# Altium integrated library Xilinx CoolRunner II.IntLib: 88 symbols (part 1 of 5)
Pins are listed as number, name and electrical type; pins without a type are passive.

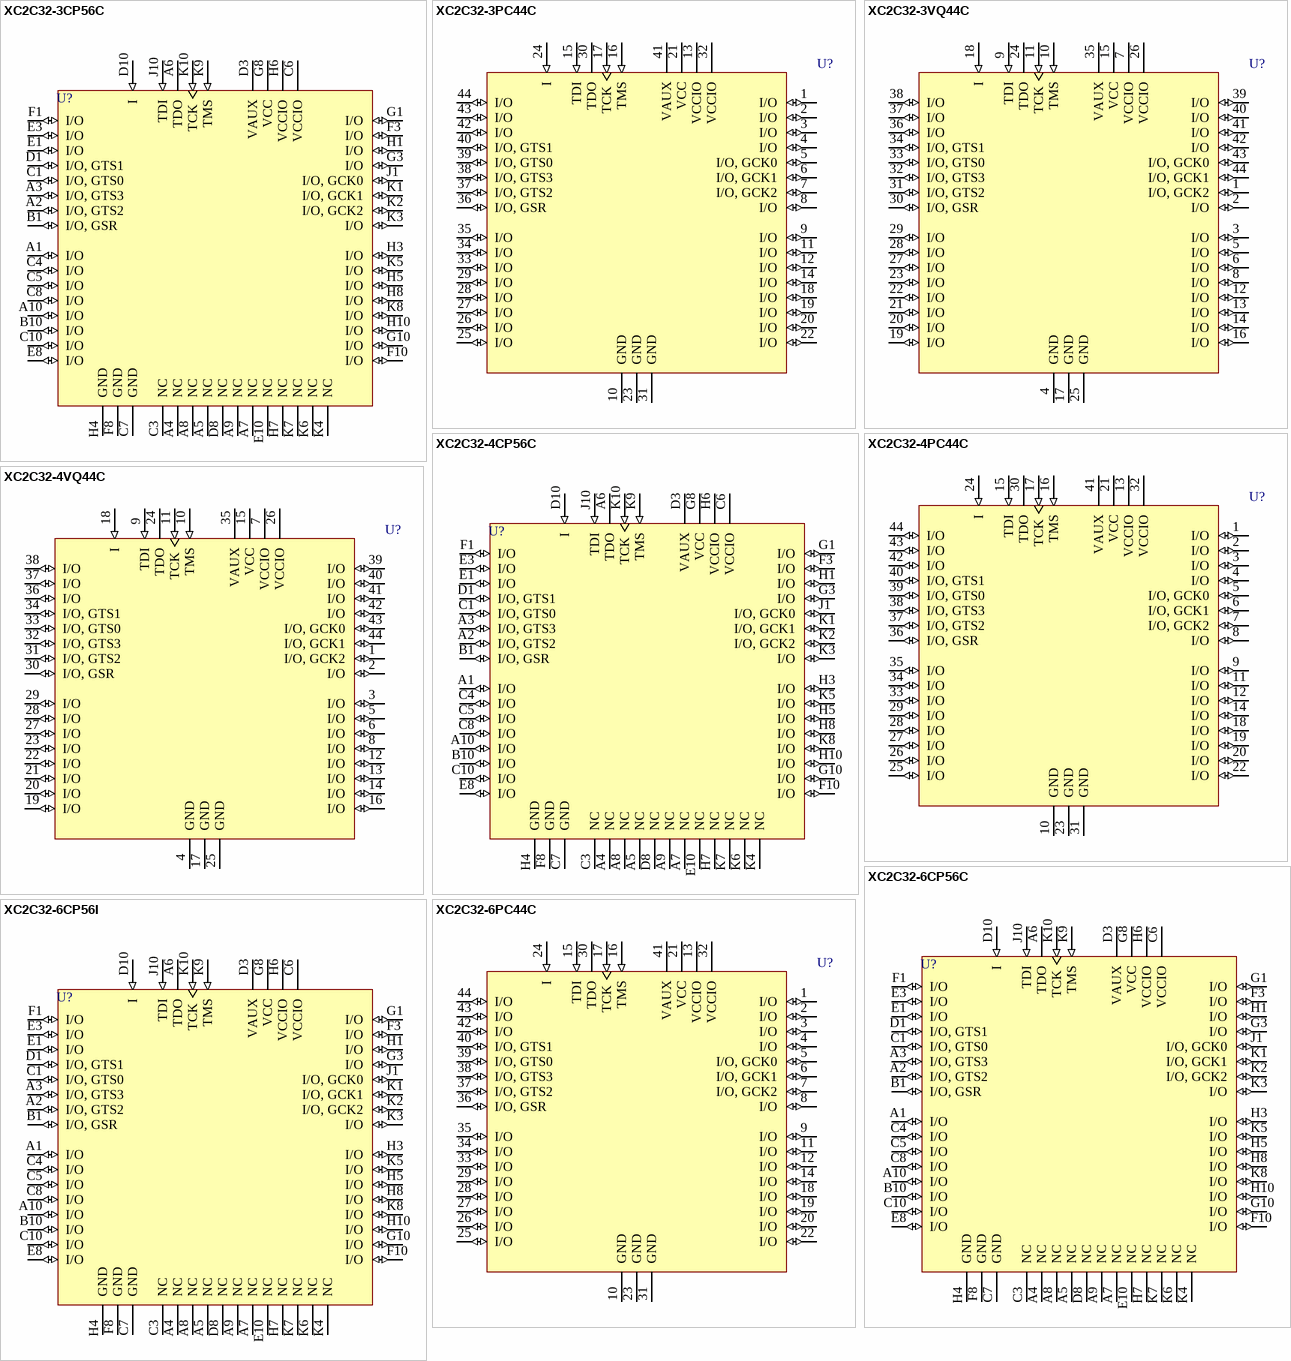
[diagram p0: symbols XC2C32-3CP56C to XC2C32-6PC44C]

## XC2C32-3CP56C
designator U?
CoolRunner-II, 1.8V, 32 Macrocell CPLD, 56-Ball CSP, Commercial Grade; PackageDocument: ver1.0, Jun-2000; Published: 23-Sep-2002; DatasheetDocument: ver2.2, Jan-2004; PackageReference: CP56; Publisher: Altium Limited
footprint CP56 (56-Ball Chip Scale Ball Grid Array 0.5mm Pitch (CP56))
3D model XC2C32-CP56 (56-Ball Chip Scale Ball Grid Array 0.5mm Pitch (CP56))
signal-integrity model XC2C32_CP56 (CoolRunner-II)
pins: A1 I/O (io), A2 I/O, GTS2 (io), A3 I/O, GTS3 (io), A4 NC, A5 NC, A6 TDO (hiz), A7 NC, A8 NC, A9 NC, A10 I/O (io), B1 I/O, GSR (io), B10 I/O (io), C1 I/O, GTS0 (io), C3 NC, C4 I/O (io), C5 I/O (io), C6 VCCIO (power), C7 GND (power), C8 I/O (io), C10 I/O (io), D1 I/O, GTS1 (io), D3 VAUX (power), D8 NC, D10 I (in), E1 I/O (io), E3 I/O (io), E8 I/O (io), E10 NC, F1 I/O (io), F3 I/O (io), F8 GND (power), F10 I/O (io), G1 I/O (io), G3 I/O (io), G8 VCC (power), G10 I/O (io), H1 I/O (io), H3 I/O (io), H4 GND (power), H5 I/O (io), H6 VCCIO (power), H7 NC, H8 I/O (io), H10 I/O (io), J1 I/O, GCK0 (io), J10 TDI (in), K1 I/O, GCK1 (io), K2 I/O, GCK2 (io), K3 I/O (io), K4 NC, K5 I/O (io), K6 NC, K7 NC, K8 I/O (io), K9 TMS (in), K10 TCK (in)

## XC2C32-3PC44C
designator U?
CoolRunner-II, 1.8V, 32 Macrocell CPLD, 44-Pin PLCC, Commercial Grade; PackageDocument: ver1.0, Jun-2000; Published: 23-Sep-2002; DatasheetDocument: ver2.2, Jan-2004; PackageReference: PC44; Publisher: Altium Limited; Code_JEDEC: MS-047; Code_IPC: PLCC-44
footprint PC44 (44-Pin Plastic Leaded Chip Carrier (PC44))
3D model XC2C32-PC44 (44-Pin Plastic Leaded Chip Carrier (PC44))
signal-integrity model XC2C32_PC44 (CoolRunner-II)
pins: 1 I/O (io), 2 I/O (io), 3 I/O (io), 4 I/O (io), 5 I/O, GCK0 (io), 6 I/O, GCK1 (io), 7 I/O, GCK2 (io), 8 I/O (io), 9 I/O (io), 10 GND (power), 11 I/O (io), 12 I/O (io), 13 VCCIO (power), 14 I/O (io), 15 TDI (in), 16 TMS (in), 17 TCK (in), 18 I/O (io), 19 I/O (io), 20 I/O (io), 21 VCC (power), 22 I/O (io), 23 GND (power), 24 I (in), 25 I/O (io), 26 I/O (io), 27 I/O (io), 28 I/O (io), 29 I/O (io), 30 TDO (hiz), 31 GND (power), 32 VCCIO (power), 33 I/O (io), 34 I/O (io), 35 I/O (io), 36 I/O, GSR (io), 37 I/O, GTS2 (io), 38 I/O, GTS3 (io), 39 I/O, GTS0 (io), 40 I/O, GTS1 (io), 41 VAUX (power), 42 I/O (io), 43 I/O (io), 44 I/O (io)

## XC2C32-3VQ44C
designator U?
CoolRunner-II, 1.8V, 32 Macrocell CPLD, 44-Pin VQFP, Commercial Grade; PackageDocument: ver1.1, Oct-2002; Published: 23-Sep-2002; DatasheetDocument: ver2.2, Jan-2004; PackageReference: VQ44; Publisher: Altium Limited; Code_JEDEC: MS-026-ACB
footprint VQ44 (44-Pin Very Thin Quad Flat Pack (VQ44))
3D model XC2C32-VQ44 (44-Pin Very Thin Quad Flat Pack (VQ44))
signal-integrity model XC2C32_VQ44 (CoolRunner-II)
pins: 1 I/O, GCK2 (io), 2 I/O (io), 3 I/O (io), 4 GND (power), 5 I/O (io), 6 I/O (io), 7 VCCIO (power), 8 I/O (io), 9 TDI (in), 10 TMS (in), 11 TCK (in), 12 I/O (io), 13 I/O (io), 14 I/O (io), 15 VCC (power), 16 I/O (io), 17 GND (power), 18 I (in), 19 I/O (io), 20 I/O (io), 21 I/O (io), 22 I/O (io), 23 I/O (io), 24 TDO (hiz), 25 GND (power), 26 VCCIO (power), 27 I/O (io), 28 I/O (io), 29 I/O (io), 30 I/O, GSR (io), 31 I/O, GTS2 (io), 32 I/O, GTS3 (io), 33 I/O, GTS0 (io), 34 I/O, GTS1 (io), 35 VAUX (power), 36 I/O (io), 37 I/O (io), 38 I/O (io), 39 I/O (io), 40 I/O (io), 41 I/O (io), 42 I/O (io), 43 I/O, GCK0 (io), 44 I/O, GCK1 (io)

## XC2C32-4CP56C
designator U?
CoolRunner-II, 1.8V, 32 Macrocell CPLD, 56-Ball CSP, Commercial Grade; PackageDocument: ver1.0, Jun-2000; Published: 23-Sep-2002; DatasheetDocument: ver2.2, Jan-2004; PackageReference: CP56; Publisher: Altium Limited
footprint CP56 (56-Ball Chip Scale Ball Grid Array 0.5mm Pitch (CP56))
3D model XC2C32-CP56 (56-Ball Chip Scale Ball Grid Array 0.5mm Pitch (CP56))
signal-integrity model XC2C32_CP56 (CoolRunner-II)
pins: A1 I/O (io), A2 I/O, GTS2 (io), A3 I/O, GTS3 (io), A4 NC, A5 NC, A6 TDO (hiz), A7 NC, A8 NC, A9 NC, A10 I/O (io), B1 I/O, GSR (io), B10 I/O (io), C1 I/O, GTS0 (io), C3 NC, C4 I/O (io), C5 I/O (io), C6 VCCIO (power), C7 GND (power), C8 I/O (io), C10 I/O (io), D1 I/O, GTS1 (io), D3 VAUX (power), D8 NC, D10 I (in), E1 I/O (io), E3 I/O (io), E8 I/O (io), E10 NC, F1 I/O (io), F3 I/O (io), F8 GND (power), F10 I/O (io), G1 I/O (io), G3 I/O (io), G8 VCC (power), G10 I/O (io), H1 I/O (io), H3 I/O (io), H4 GND (power), H5 I/O (io), H6 VCCIO (power), H7 NC, H8 I/O (io), H10 I/O (io), J1 I/O, GCK0 (io), J10 TDI (in), K1 I/O, GCK1 (io), K2 I/O, GCK2 (io), K3 I/O (io), K4 NC, K5 I/O (io), K6 NC, K7 NC, K8 I/O (io), K9 TMS (in), K10 TCK (in)

## XC2C32-4PC44C
designator U?
CoolRunner-II, 1.8V, 32 Macrocell CPLD, 44-Pin PLCC, Commercial Grade; PackageDocument: ver1.0, Jun-2000; Published: 23-Sep-2002; DatasheetDocument: ver2.2, Jan-2004; PackageReference: PC44; Publisher: Altium Limited; Code_JEDEC: MS-047; Code_IPC: PLCC-44
footprint PC44 (44-Pin Plastic Leaded Chip Carrier (PC44))
3D model XC2C32-PC44 (44-Pin Plastic Leaded Chip Carrier (PC44))
signal-integrity model XC2C32_PC44 (CoolRunner-II)
pins: 1 I/O (io), 2 I/O (io), 3 I/O (io), 4 I/O (io), 5 I/O, GCK0 (io), 6 I/O, GCK1 (io), 7 I/O, GCK2 (io), 8 I/O (io), 9 I/O (io), 10 GND (power), 11 I/O (io), 12 I/O (io), 13 VCCIO (power), 14 I/O (io), 15 TDI (in), 16 TMS (in), 17 TCK (in), 18 I/O (io), 19 I/O (io), 20 I/O (io), 21 VCC (power), 22 I/O (io), 23 GND (power), 24 I (in), 25 I/O (io), 26 I/O (io), 27 I/O (io), 28 I/O (io), 29 I/O (io), 30 TDO (hiz), 31 GND (power), 32 VCCIO (power), 33 I/O (io), 34 I/O (io), 35 I/O (io), 36 I/O, GSR (io), 37 I/O, GTS2 (io), 38 I/O, GTS3 (io), 39 I/O, GTS0 (io), 40 I/O, GTS1 (io), 41 VAUX (power), 42 I/O (io), 43 I/O (io), 44 I/O (io)

## XC2C32-4VQ44C
designator U?
CoolRunner-II, 1.8V, 32 Macrocell CPLD, 44-Pin VQFP, Commercial Grade; PackageDocument: ver1.1, Oct-2002; Published: 23-Sep-2002; DatasheetDocument: ver2.2, Jan-2004; PackageReference: VQ44; Publisher: Altium Limited; Code_JEDEC: MS-026-ACB
footprint VQ44 (44-Pin Very Thin Quad Flat Pack (VQ44))
3D model XC2C32-VQ44 (44-Pin Very Thin Quad Flat Pack (VQ44))
signal-integrity model XC2C32_VQ44 (CoolRunner-II)
pins: 1 I/O, GCK2 (io), 2 I/O (io), 3 I/O (io), 4 GND (power), 5 I/O (io), 6 I/O (io), 7 VCCIO (power), 8 I/O (io), 9 TDI (in), 10 TMS (in), 11 TCK (in), 12 I/O (io), 13 I/O (io), 14 I/O (io), 15 VCC (power), 16 I/O (io), 17 GND (power), 18 I (in), 19 I/O (io), 20 I/O (io), 21 I/O (io), 22 I/O (io), 23 I/O (io), 24 TDO (hiz), 25 GND (power), 26 VCCIO (power), 27 I/O (io), 28 I/O (io), 29 I/O (io), 30 I/O, GSR (io), 31 I/O, GTS2 (io), 32 I/O, GTS3 (io), 33 I/O, GTS0 (io), 34 I/O, GTS1 (io), 35 VAUX (power), 36 I/O (io), 37 I/O (io), 38 I/O (io), 39 I/O (io), 40 I/O (io), 41 I/O (io), 42 I/O (io), 43 I/O, GCK0 (io), 44 I/O, GCK1 (io)

## XC2C32-6CP56C
designator U?
CoolRunner-II, 1.8V, 32 Macrocell CPLD, 56-Ball CSP, Commercial Grade; PackageDocument: ver1.0, Jun-2000; Published: 23-Sep-2002; DatasheetDocument: ver2.2, Jan-2004; PackageReference: CP56; Publisher: Altium Limited
footprint CP56 (56-Ball Chip Scale Ball Grid Array 0.5mm Pitch (CP56))
3D model XC2C32-CP56 (56-Ball Chip Scale Ball Grid Array 0.5mm Pitch (CP56))
signal-integrity model XC2C32_CP56 (CoolRunner-II)
pins: A1 I/O (io), A2 I/O, GTS2 (io), A3 I/O, GTS3 (io), A4 NC, A5 NC, A6 TDO (hiz), A7 NC, A8 NC, A9 NC, A10 I/O (io), B1 I/O, GSR (io), B10 I/O (io), C1 I/O, GTS0 (io), C3 NC, C4 I/O (io), C5 I/O (io), C6 VCCIO (power), C7 GND (power), C8 I/O (io), C10 I/O (io), D1 I/O, GTS1 (io), D3 VAUX (power), D8 NC, D10 I (in), E1 I/O (io), E3 I/O (io), E8 I/O (io), E10 NC, F1 I/O (io), F3 I/O (io), F8 GND (power), F10 I/O (io), G1 I/O (io), G3 I/O (io), G8 VCC (power), G10 I/O (io), H1 I/O (io), H3 I/O (io), H4 GND (power), H5 I/O (io), H6 VCCIO (power), H7 NC, H8 I/O (io), H10 I/O (io), J1 I/O, GCK0 (io), J10 TDI (in), K1 I/O, GCK1 (io), K2 I/O, GCK2 (io), K3 I/O (io), K4 NC, K5 I/O (io), K6 NC, K7 NC, K8 I/O (io), K9 TMS (in), K10 TCK (in)

## XC2C32-6CP56I
designator U?
CoolRunner-II, 1.8V, 32 Macrocell CPLD, 56-Ball CSP, Industrial Grade; PackageDocument: ver1.0, Jun-2000; Published: 23-Sep-2002; DatasheetDocument: ver2.2, Jan-2004; PackageReference: CP56; Publisher: Altium Limited
footprint CP56 (56-Ball Chip Scale Ball Grid Array 0.5mm Pitch (CP56))
3D model XC2C32-CP56 (56-Ball Chip Scale Ball Grid Array 0.5mm Pitch (CP56))
signal-integrity model XC2C32_CP56 (CoolRunner-II)
pins: A1 I/O (io), A2 I/O, GTS2 (io), A3 I/O, GTS3 (io), A4 NC, A5 NC, A6 TDO (hiz), A7 NC, A8 NC, A9 NC, A10 I/O (io), B1 I/O, GSR (io), B10 I/O (io), C1 I/O, GTS0 (io), C3 NC, C4 I/O (io), C5 I/O (io), C6 VCCIO (power), C7 GND (power), C8 I/O (io), C10 I/O (io), D1 I/O, GTS1 (io), D3 VAUX (power), D8 NC, D10 I (in), E1 I/O (io), E3 I/O (io), E8 I/O (io), E10 NC, F1 I/O (io), F3 I/O (io), F8 GND (power), F10 I/O (io), G1 I/O (io), G3 I/O (io), G8 VCC (power), G10 I/O (io), H1 I/O (io), H3 I/O (io), H4 GND (power), H5 I/O (io), H6 VCCIO (power), H7 NC, H8 I/O (io), H10 I/O (io), J1 I/O, GCK0 (io), J10 TDI (in), K1 I/O, GCK1 (io), K2 I/O, GCK2 (io), K3 I/O (io), K4 NC, K5 I/O (io), K6 NC, K7 NC, K8 I/O (io), K9 TMS (in), K10 TCK (in)

## XC2C32-6PC44C
designator U?
CoolRunner-II, 1.8V, 32 Macrocell CPLD, 44-Pin PLCC, Commercial Grade; PackageDocument: ver1.0, Jun-2000; Published: 23-Sep-2002; DatasheetDocument: ver2.2, Jan-2004; PackageReference: PC44; Publisher: Altium Limited; Code_JEDEC: MS-047; Code_IPC: PLCC-44
footprint PC44 (44-Pin Plastic Leaded Chip Carrier (PC44))
3D model XC2C32-PC44 (44-Pin Plastic Leaded Chip Carrier (PC44))
signal-integrity model XC2C32_PC44 (CoolRunner-II)
pins: 1 I/O (io), 2 I/O (io), 3 I/O (io), 4 I/O (io), 5 I/O, GCK0 (io), 6 I/O, GCK1 (io), 7 I/O, GCK2 (io), 8 I/O (io), 9 I/O (io), 10 GND (power), 11 I/O (io), 12 I/O (io), 13 VCCIO (power), 14 I/O (io), 15 TDI (in), 16 TMS (in), 17 TCK (in), 18 I/O (io), 19 I/O (io), 20 I/O (io), 21 VCC (power), 22 I/O (io), 23 GND (power), 24 I (in), 25 I/O (io), 26 I/O (io), 27 I/O (io), 28 I/O (io), 29 I/O (io), 30 TDO (hiz), 31 GND (power), 32 VCCIO (power), 33 I/O (io), 34 I/O (io), 35 I/O (io), 36 I/O, GSR (io), 37 I/O, GTS2 (io), 38 I/O, GTS3 (io), 39 I/O, GTS0 (io), 40 I/O, GTS1 (io), 41 VAUX (power), 42 I/O (io), 43 I/O (io), 44 I/O (io)

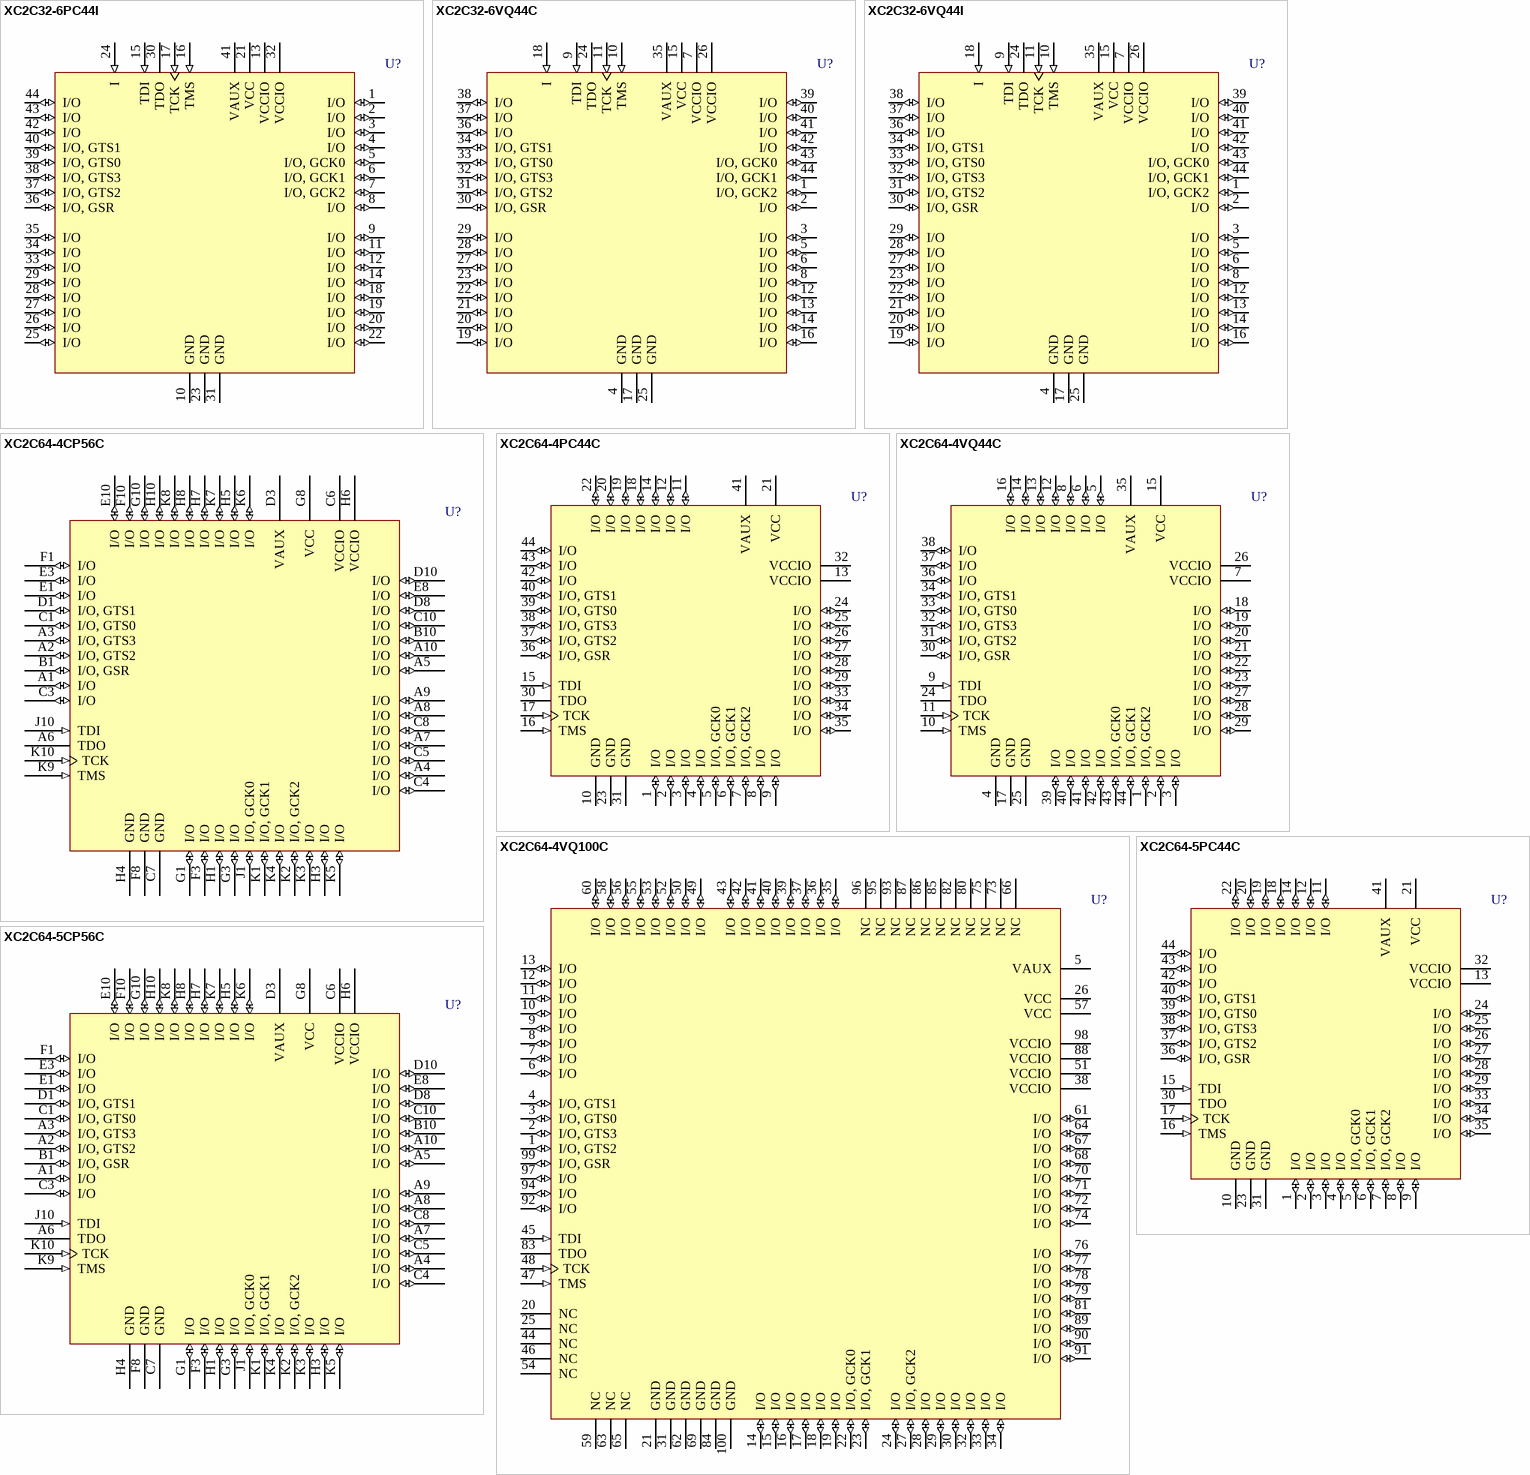
[diagram p1: symbols XC2C32-6PC44I to XC2C64-5PC44C]

## XC2C32-6PC44I
designator U?
CoolRunner-II, 1.8V, 32 Macrocell CPLD, 44-Pin PLCC, Industrial Grade; PackageDocument: ver1.0, Jun-2000; Published: 23-Sep-2002; DatasheetDocument: ver2.2, Jan-2004; PackageReference: PC44; Publisher: Altium Limited; Code_JEDEC: MS-047; Code_IPC: PLCC-44
footprint PC44 (44-Pin Plastic Leaded Chip Carrier (PC44))
3D model XC2C32-PC44 (44-Pin Plastic Leaded Chip Carrier (PC44))
signal-integrity model XC2C32_PC44 (CoolRunner-II)
pins: 1 I/O (io), 2 I/O (io), 3 I/O (io), 4 I/O (io), 5 I/O, GCK0 (io), 6 I/O, GCK1 (io), 7 I/O, GCK2 (io), 8 I/O (io), 9 I/O (io), 10 GND (power), 11 I/O (io), 12 I/O (io), 13 VCCIO (power), 14 I/O (io), 15 TDI (in), 16 TMS (in), 17 TCK (in), 18 I/O (io), 19 I/O (io), 20 I/O (io), 21 VCC (power), 22 I/O (io), 23 GND (power), 24 I (in), 25 I/O (io), 26 I/O (io), 27 I/O (io), 28 I/O (io), 29 I/O (io), 30 TDO (hiz), 31 GND (power), 32 VCCIO (power), 33 I/O (io), 34 I/O (io), 35 I/O (io), 36 I/O, GSR (io), 37 I/O, GTS2 (io), 38 I/O, GTS3 (io), 39 I/O, GTS0 (io), 40 I/O, GTS1 (io), 41 VAUX (power), 42 I/O (io), 43 I/O (io), 44 I/O (io)

## XC2C32-6VQ44C
designator U?
CoolRunner-II, 1.8V, 32 Macrocell CPLD, 44-Pin VQFP, Commercial Grade; PackageDocument: ver1.1, Oct-2002; Published: 23-Sep-2002; DatasheetDocument: ver2.2, Jan-2004; PackageReference: VQ44; Publisher: Altium Limited; Code_JEDEC: MS-026-ACB
footprint VQ44 (44-Pin Very Thin Quad Flat Pack (VQ44))
3D model XC2C32-VQ44 (44-Pin Very Thin Quad Flat Pack (VQ44))
signal-integrity model XC2C32_VQ44 (CoolRunner-II)
pins: 1 I/O, GCK2 (io), 2 I/O (io), 3 I/O (io), 4 GND (power), 5 I/O (io), 6 I/O (io), 7 VCCIO (power), 8 I/O (io), 9 TDI (in), 10 TMS (in), 11 TCK (in), 12 I/O (io), 13 I/O (io), 14 I/O (io), 15 VCC (power), 16 I/O (io), 17 GND (power), 18 I (in), 19 I/O (io), 20 I/O (io), 21 I/O (io), 22 I/O (io), 23 I/O (io), 24 TDO (hiz), 25 GND (power), 26 VCCIO (power), 27 I/O (io), 28 I/O (io), 29 I/O (io), 30 I/O, GSR (io), 31 I/O, GTS2 (io), 32 I/O, GTS3 (io), 33 I/O, GTS0 (io), 34 I/O, GTS1 (io), 35 VAUX (power), 36 I/O (io), 37 I/O (io), 38 I/O (io), 39 I/O (io), 40 I/O (io), 41 I/O (io), 42 I/O (io), 43 I/O, GCK0 (io), 44 I/O, GCK1 (io)

## XC2C32-6VQ44I
designator U?
CoolRunner-II, 1.8V, 32 Macrocell CPLD, 44-Pin VQFP, Industrial Grade; PackageDocument: ver1.1, Oct-2002; Published: 23-Sep-2002; DatasheetDocument: ver2.2, Jan-2004; PackageReference: VQ44; Publisher: Altium Limited; Code_JEDEC: MS-026-ACB
footprint VQ44 (44-Pin Very Thin Quad Flat Pack (VQ44))
3D model XC2C32-VQ44 (44-Pin Very Thin Quad Flat Pack (VQ44))
signal-integrity model XC2C32_VQ44 (CoolRunner-II)
pins: 1 I/O, GCK2 (io), 2 I/O (io), 3 I/O (io), 4 GND (power), 5 I/O (io), 6 I/O (io), 7 VCCIO (power), 8 I/O (io), 9 TDI (in), 10 TMS (in), 11 TCK (in), 12 I/O (io), 13 I/O (io), 14 I/O (io), 15 VCC (power), 16 I/O (io), 17 GND (power), 18 I (in), 19 I/O (io), 20 I/O (io), 21 I/O (io), 22 I/O (io), 23 I/O (io), 24 TDO (hiz), 25 GND (power), 26 VCCIO (power), 27 I/O (io), 28 I/O (io), 29 I/O (io), 30 I/O, GSR (io), 31 I/O, GTS2 (io), 32 I/O, GTS3 (io), 33 I/O, GTS0 (io), 34 I/O, GTS1 (io), 35 VAUX (power), 36 I/O (io), 37 I/O (io), 38 I/O (io), 39 I/O (io), 40 I/O (io), 41 I/O (io), 42 I/O (io), 43 I/O, GCK0 (io), 44 I/O, GCK1 (io)

## XC2C64-4CP56C
designator U?
CoolRunner-II, 1.8V, 64 Macrocell CPLD, 56-Ball CSP, Commercial Grade; PackageDocument: ver1.0, Jun-2000; Published: 23-Sep-2002; DatasheetDocument: ver1.5, Jan-2004; PackageReference: CP56; Publisher: Altium Limited
footprint CP56 (56-Ball Chip Scale Ball Grid Array 0.5mm Pitch (CP56))
3D model XC2C64-CP56 (56-Ball Chip Scale Ball Grid Array 0.5mm Pitch (CP56))
signal-integrity model XC2C64_CP56 (CoolRunner-II)
pins: A1 I/O (io), A2 I/O, GTS2 (io), A3 I/O, GTS3 (io), A4 I/O (io), A5 I/O (io), A6 TDO (hiz), A7 I/O (io), A8 I/O (io), A9 I/O (io), A10 I/O (io), B1 I/O, GSR (io), B10 I/O (io), C1 I/O, GTS0 (io), C3 I/O (io), C4 I/O (io), C5 I/O (io), C6 VCCIO (power), C7 GND (power), C8 I/O (io), C10 I/O (io), D1 I/O, GTS1 (io), D3 VAUX (power), D8 I/O (io), D10 I/O (io), E1 I/O (io), E3 I/O (io), E8 I/O (io), E10 I/O (io), F1 I/O (io), F3 I/O (io), F8 GND (power), F10 I/O (io), G1 I/O (io), G3 I/O (io), G8 VCC (power), G10 I/O (io), H1 I/O (io), H3 I/O (io), H4 GND (power), H5 I/O (io), H6 VCCIO (power), H7 I/O (io), H8 I/O (io), H10 I/O (io), J1 I/O, GCK0 (io), J10 TDI (in), K1 I/O, GCK1 (io), K2 I/O, GCK2 (io), K3 I/O (io), K4 I/O (io), K5 I/O (io), K6 I/O (io), K7 I/O (io), K8 I/O (io), K9 TMS (in), K10 TCK (in)

## XC2C64-4PC44C
designator U?
CoolRunner-II, 1.8V, 64 Macrocell CPLD, 44-Pin PLCC, Commercial Grade; PackageDocument: ver1.0, Jun-2000; Published: 23-Sep-2002; DatasheetDocument: ver1.5, Jan-2004; PackageReference: PC44; Publisher: Altium Limited; Code_JEDEC: MS-047; Code_IPC: PLCC-44
footprint PC44 (44-Pin Plastic Leaded Chip Carrier (PC44))
3D model XC2C64-PC44 (44-Pin Plastic Leaded Chip Carrier (PC44))
signal-integrity model XC2C64_PC44 (CoolRunner-II)
pins: 1 I/O (io), 2 I/O (io), 3 I/O (io), 4 I/O (io), 5 I/O, GCK0 (io), 6 I/O, GCK1 (io), 7 I/O, GCK2 (io), 8 I/O (io), 9 I/O (io), 10 GND (power), 11 I/O (io), 12 I/O (io), 13 VCCIO (power), 14 I/O (io), 15 TDI (in), 16 TMS (in), 17 TCK (in), 18 I/O (io), 19 I/O (io), 20 I/O (io), 21 VCC (power), 22 I/O (io), 23 GND (power), 24 I/O (io), 25 I/O (io), 26 I/O (io), 27 I/O (io), 28 I/O (io), 29 I/O (io), 30 TDO (hiz), 31 GND (power), 32 VCCIO (power), 33 I/O (io), 34 I/O (io), 35 I/O (io), 36 I/O, GSR (io), 37 I/O, GTS2 (io), 38 I/O, GTS3 (io), 39 I/O, GTS0 (io), 40 I/O, GTS1 (io), 41 VAUX (power), 42 I/O (io), 43 I/O (io), 44 I/O (io)

## XC2C64-4VQ44C
designator U?
CoolRunner-II, 1.8V, 64 Macrocell CPLD, 44-Pin VQFP, Commercial Grade; PackageDocument: ver1.1, Oct-2002; Published: 23-Sep-2002; DatasheetDocument: ver1.5, Jan-2004; PackageReference: VQ44; Publisher: Altium Limited; Code_JEDEC: MS-026-ACB
footprint VQ44 (44-Pin Very Thin Quad Flat Pack (VQ44))
3D model XC2C64-VQ44 (44-Pin Very Thin Quad Flat Pack (VQ44))
signal-integrity model XC2C64_VQ44 (CoolRunner-II)
pins: 1 I/O, GCK2 (io), 2 I/O (io), 3 I/O (io), 4 GND (power), 5 I/O (io), 6 I/O (io), 7 VCCIO (power), 8 I/O (io), 9 TDI (in), 10 TMS (in), 11 TCK (in), 12 I/O (io), 13 I/O (io), 14 I/O (io), 15 VCC (power), 16 I/O (io), 17 GND (power), 18 I/O (io), 19 I/O (io), 20 I/O (io), 21 I/O (io), 22 I/O (io), 23 I/O (io), 24 TDO (hiz), 25 GND (power), 26 VCCIO (power), 27 I/O (io), 28 I/O (io), 29 I/O (io), 30 I/O, GSR (io), 31 I/O, GTS2 (io), 32 I/O, GTS3 (io), 33 I/O, GTS0 (io), 34 I/O, GTS1 (io), 35 VAUX (power), 36 I/O (io), 37 I/O (io), 38 I/O (io), 39 I/O (io), 40 I/O (io), 41 I/O (io), 42 I/O (io), 43 I/O, GCK0 (io), 44 I/O, GCK1 (io)

## XC2C64-4VQ100C
designator U?
CoolRunner-II, 1.8V, 64 Macrocell CPLD, 100-Pin VQFP, Commercial Grade; PackageDocument: ver1.1, Oct-2002; Published: 23-Sep-2002; DatasheetDocument: ver1.5, Jan-2004; PackageReference: VQ100; Publisher: Altium Limited; Code_JEDEC: MS-026-AED; Code_IPC: SQFP14X14-100
footprint VQ100 (100-Pin Very Thin Quad Flat Pack (VQ100))
3D model XC2C64-VQ100 (100-Pin Very Thin Quad Flat Pack (VQ100))
signal-integrity model XC2C64_VQ100 (CoolRunner-II)
pins: 1 I/O, GTS2 (io), 2 I/O, GTS3 (io), 3 I/O, GTS0 (io), 4 I/O, GTS1 (io), 5 VAUX (power), 6 I/O (io), 7 I/O (io), 8 I/O (io), 9 I/O (io), 10 I/O (io), 11 I/O (io), 12 I/O (io), 13 I/O (io), 14 I/O (io), 15 I/O (io), 16 I/O (io), 17 I/O (io), 18 I/O (io), 19 I/O (io), 20 NC, 21 GND (power), 22 I/O, GCK0 (io), 23 I/O, GCK1 (io), 24 I/O (io), 25 NC, 26 VCC (power), 27 I/O, GCK2 (io), 28 I/O (io), 29 I/O (io), 30 I/O (io), 31 GND (power), 32 I/O (io), 33 I/O (io), 34 I/O (io), 35 I/O (io), 36 I/O (io), 37 I/O (io), 38 VCCIO (power), 39 I/O (io), 40 I/O (io), 41 I/O (io), 42 I/O (io), 43 I/O (io), 44 NC, 45 TDI (in), 46 NC, 47 TMS (in), 48 TCK (in), 49 I/O (io), 50 I/O (io), 51 VCCIO (power), 52 I/O (io), 53 I/O (io), 54 NC, 55 I/O (io), 56 I/O (io), 57 VCC (power), 58 I/O (io), 59 NC, 60 I/O (io), 61 I/O (io), 62 GND (power), 63 NC, 64 I/O (io), 65 NC, 66 NC, 67 I/O (io), 68 I/O (io), 69 GND (power), 70 I/O (io), 71 I/O (io), 72 I/O (io), 73 NC, 74 I/O (io), 75 NC, 76 I/O (io), 77 I/O (io), 78 I/O (io), 79 I/O (io), 80 NC, 81 I/O (io), 82 NC, 83 TDO (hiz), 84 GND (power), 85 NC, 86 NC, 87 NC, 88 VCCIO (power), 89 I/O (io), 90 I/O (io), 91 I/O (io), 92 I/O (io), 93 NC, 94 I/O (io), 95 NC, 96 NC, 97 I/O (io), 98 VCCIO (power), 99 I/O, GSR (io), 100 GND (power)

## XC2C64-5CP56C
designator U?
CoolRunner-II, 1.8V, 64 Macrocell CPLD, 56-Ball CSP, Commercial Grade; PackageDocument: ver1.0, Jun-2000; Published: 23-Sep-2002; DatasheetDocument: ver1.5, Jan-2004; PackageReference: CP56; Publisher: Altium Limited
footprint CP56 (56-Ball Chip Scale Ball Grid Array 0.5mm Pitch (CP56))
3D model XC2C64-CP56 (56-Ball Chip Scale Ball Grid Array 0.5mm Pitch (CP56))
signal-integrity model XC2C64_CP56 (CoolRunner-II)
pins: A1 I/O (io), A2 I/O, GTS2 (io), A3 I/O, GTS3 (io), A4 I/O (io), A5 I/O (io), A6 TDO (hiz), A7 I/O (io), A8 I/O (io), A9 I/O (io), A10 I/O (io), B1 I/O, GSR (io), B10 I/O (io), C1 I/O, GTS0 (io), C3 I/O (io), C4 I/O (io), C5 I/O (io), C6 VCCIO (power), C7 GND (power), C8 I/O (io), C10 I/O (io), D1 I/O, GTS1 (io), D3 VAUX (power), D8 I/O (io), D10 I/O (io), E1 I/O (io), E3 I/O (io), E8 I/O (io), E10 I/O (io), F1 I/O (io), F3 I/O (io), F8 GND (power), F10 I/O (io), G1 I/O (io), G3 I/O (io), G8 VCC (power), G10 I/O (io), H1 I/O (io), H3 I/O (io), H4 GND (power), H5 I/O (io), H6 VCCIO (power), H7 I/O (io), H8 I/O (io), H10 I/O (io), J1 I/O, GCK0 (io), J10 TDI (in), K1 I/O, GCK1 (io), K2 I/O, GCK2 (io), K3 I/O (io), K4 I/O (io), K5 I/O (io), K6 I/O (io), K7 I/O (io), K8 I/O (io), K9 TMS (in), K10 TCK (in)

## XC2C64-5PC44C
designator U?
CoolRunner-II, 1.8V, 64 Macrocell CPLD, 44-Pin PLCC, Commercial Grade; PackageDocument: ver1.0, Jun-2000; Published: 23-Sep-2002; DatasheetDocument: ver1.5, Jan-2004; PackageReference: PC44; Publisher: Altium Limited; Code_JEDEC: MS-047; Code_IPC: PLCC-44
footprint PC44 (44-Pin Plastic Leaded Chip Carrier (PC44))
3D model XC2C64-PC44 (44-Pin Plastic Leaded Chip Carrier (PC44))
signal-integrity model XC2C64_PC44 (CoolRunner-II)
pins: 1 I/O (io), 2 I/O (io), 3 I/O (io), 4 I/O (io), 5 I/O, GCK0 (io), 6 I/O, GCK1 (io), 7 I/O, GCK2 (io), 8 I/O (io), 9 I/O (io), 10 GND (power), 11 I/O (io), 12 I/O (io), 13 VCCIO (power), 14 I/O (io), 15 TDI (in), 16 TMS (in), 17 TCK (in), 18 I/O (io), 19 I/O (io), 20 I/O (io), 21 VCC (power), 22 I/O (io), 23 GND (power), 24 I/O (io), 25 I/O (io), 26 I/O (io), 27 I/O (io), 28 I/O (io), 29 I/O (io), 30 TDO (hiz), 31 GND (power), 32 VCCIO (power), 33 I/O (io), 34 I/O (io), 35 I/O (io), 36 I/O, GSR (io), 37 I/O, GTS2 (io), 38 I/O, GTS3 (io), 39 I/O, GTS0 (io), 40 I/O, GTS1 (io), 41 VAUX (power), 42 I/O (io), 43 I/O (io), 44 I/O (io)

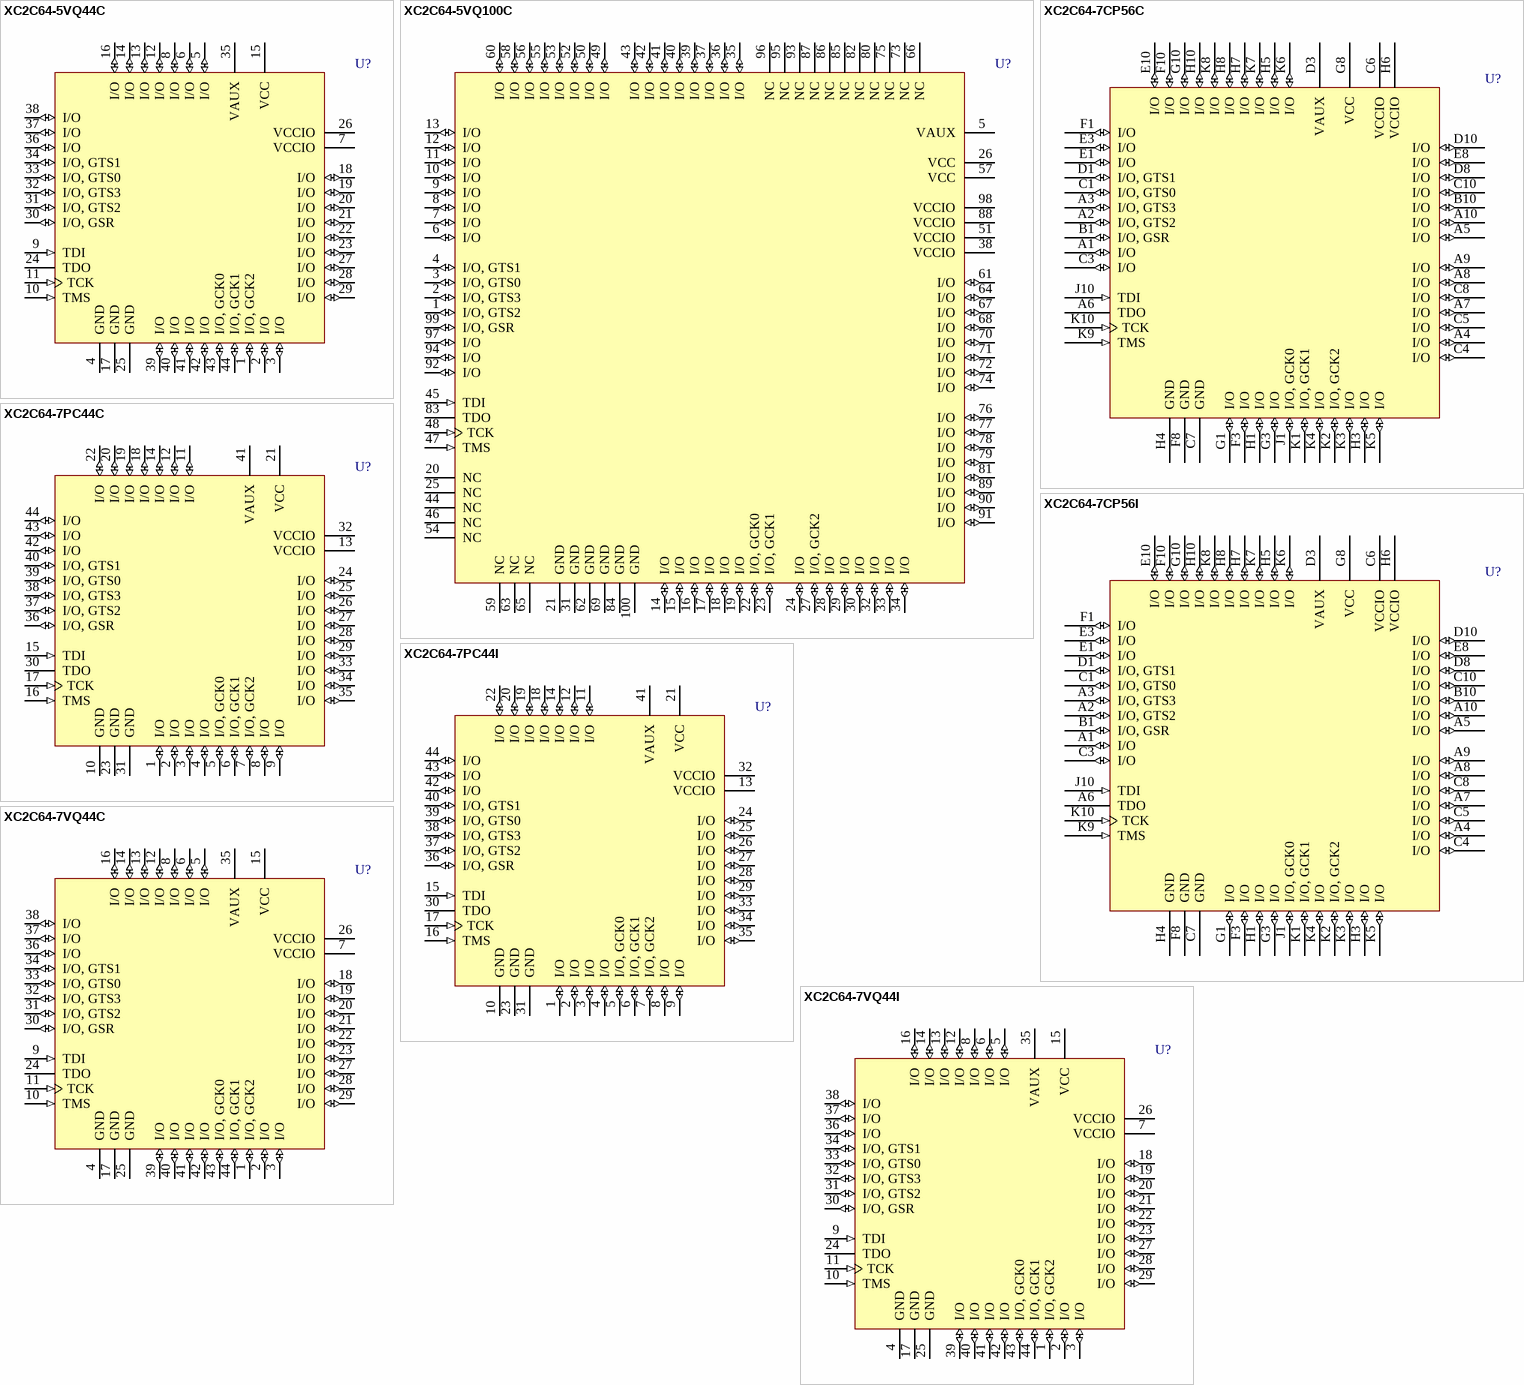
[diagram p2: symbols XC2C64-5VQ44C to XC2C64-7VQ44I]

## XC2C64-5VQ44C
designator U?
CoolRunner-II, 1.8V, 64 Macrocell CPLD, 44-Pin VQFP, Commercial Grade; PackageDocument: ver1.1, Oct-2002; Published: 23-Sep-2002; DatasheetDocument: ver1.5, Jan-2004; PackageReference: VQ44; Publisher: Altium Limited; Code_JEDEC: MS-026-ACB
footprint VQ44 (44-Pin Very Thin Quad Flat Pack (VQ44))
3D model XC2C64-VQ44 (44-Pin Very Thin Quad Flat Pack (VQ44))
signal-integrity model XC2C64_VQ44 (CoolRunner-II)
pins: 1 I/O, GCK2 (io), 2 I/O (io), 3 I/O (io), 4 GND (power), 5 I/O (io), 6 I/O (io), 7 VCCIO (power), 8 I/O (io), 9 TDI (in), 10 TMS (in), 11 TCK (in), 12 I/O (io), 13 I/O (io), 14 I/O (io), 15 VCC (power), 16 I/O (io), 17 GND (power), 18 I/O (io), 19 I/O (io), 20 I/O (io), 21 I/O (io), 22 I/O (io), 23 I/O (io), 24 TDO (hiz), 25 GND (power), 26 VCCIO (power), 27 I/O (io), 28 I/O (io), 29 I/O (io), 30 I/O, GSR (io), 31 I/O, GTS2 (io), 32 I/O, GTS3 (io), 33 I/O, GTS0 (io), 34 I/O, GTS1 (io), 35 VAUX (power), 36 I/O (io), 37 I/O (io), 38 I/O (io), 39 I/O (io), 40 I/O (io), 41 I/O (io), 42 I/O (io), 43 I/O, GCK0 (io), 44 I/O, GCK1 (io)

## XC2C64-5VQ100C
designator U?
CoolRunner-II, 1.8V, 64 Macrocell CPLD, 100-Pin VQFP, Commercial Grade; PackageDocument: ver1.1, Oct-2002; Published: 23-Sep-2002; DatasheetDocument: ver1.5, Jan-2004; PackageReference: VQ100; Publisher: Altium Limited; Code_JEDEC: MS-026-AED; Code_IPC: SQFP14X14-100
footprint VQ100 (100-Pin Very Thin Quad Flat Pack (VQ100))
3D model XC2C64-VQ100 (100-Pin Very Thin Quad Flat Pack (VQ100))
signal-integrity model XC2C64_VQ100 (CoolRunner-II)
pins: 1 I/O, GTS2 (io), 2 I/O, GTS3 (io), 3 I/O, GTS0 (io), 4 I/O, GTS1 (io), 5 VAUX (power), 6 I/O (io), 7 I/O (io), 8 I/O (io), 9 I/O (io), 10 I/O (io), 11 I/O (io), 12 I/O (io), 13 I/O (io), 14 I/O (io), 15 I/O (io), 16 I/O (io), 17 I/O (io), 18 I/O (io), 19 I/O (io), 20 NC, 21 GND (power), 22 I/O, GCK0 (io), 23 I/O, GCK1 (io), 24 I/O (io), 25 NC, 26 VCC (power), 27 I/O, GCK2 (io), 28 I/O (io), 29 I/O (io), 30 I/O (io), 31 GND (power), 32 I/O (io), 33 I/O (io), 34 I/O (io), 35 I/O (io), 36 I/O (io), 37 I/O (io), 38 VCCIO (power), 39 I/O (io), 40 I/O (io), 41 I/O (io), 42 I/O (io), 43 I/O (io), 44 NC, 45 TDI (in), 46 NC, 47 TMS (in), 48 TCK (in), 49 I/O (io), 50 I/O (io), 51 VCCIO (power), 52 I/O (io), 53 I/O (io), 54 NC, 55 I/O (io), 56 I/O (io), 57 VCC (power), 58 I/O (io), 59 NC, 60 I/O (io), 61 I/O (io), 62 GND (power), 63 NC, 64 I/O (io), 65 NC, 66 NC, 67 I/O (io), 68 I/O (io), 69 GND (power), 70 I/O (io), 71 I/O (io), 72 I/O (io), 73 NC, 74 I/O (io), 75 NC, 76 I/O (io), 77 I/O (io), 78 I/O (io), 79 I/O (io), 80 NC, 81 I/O (io), 82 NC, 83 TDO (hiz), 84 GND (power), 85 NC, 86 NC, 87 NC, 88 VCCIO (power), 89 I/O (io), 90 I/O (io), 91 I/O (io), 92 I/O (io), 93 NC, 94 I/O (io), 95 NC, 96 NC, 97 I/O (io), 98 VCCIO (power), 99 I/O, GSR (io), 100 GND (power)

## XC2C64-7CP56C
designator U?
CoolRunner-II, 1.8V, 64 Macrocell CPLD, 56-Ball CSP, Commercial Grade; PackageDocument: ver1.0, Jun-2000; Published: 23-Sep-2002; DatasheetDocument: ver1.5, Jan-2004; PackageReference: CP56; Publisher: Altium Limited
footprint CP56 (56-Ball Chip Scale Ball Grid Array 0.5mm Pitch (CP56))
3D model XC2C64-CP56 (56-Ball Chip Scale Ball Grid Array 0.5mm Pitch (CP56))
signal-integrity model XC2C64_CP56 (CoolRunner-II)
pins: A1 I/O (io), A2 I/O, GTS2 (io), A3 I/O, GTS3 (io), A4 I/O (io), A5 I/O (io), A6 TDO (hiz), A7 I/O (io), A8 I/O (io), A9 I/O (io), A10 I/O (io), B1 I/O, GSR (io), B10 I/O (io), C1 I/O, GTS0 (io), C3 I/O (io), C4 I/O (io), C5 I/O (io), C6 VCCIO (power), C7 GND (power), C8 I/O (io), C10 I/O (io), D1 I/O, GTS1 (io), D3 VAUX (power), D8 I/O (io), D10 I/O (io), E1 I/O (io), E3 I/O (io), E8 I/O (io), E10 I/O (io), F1 I/O (io), F3 I/O (io), F8 GND (power), F10 I/O (io), G1 I/O (io), G3 I/O (io), G8 VCC (power), G10 I/O (io), H1 I/O (io), H3 I/O (io), H4 GND (power), H5 I/O (io), H6 VCCIO (power), H7 I/O (io), H8 I/O (io), H10 I/O (io), J1 I/O, GCK0 (io), J10 TDI (in), K1 I/O, GCK1 (io), K2 I/O, GCK2 (io), K3 I/O (io), K4 I/O (io), K5 I/O (io), K6 I/O (io), K7 I/O (io), K8 I/O (io), K9 TMS (in), K10 TCK (in)

## XC2C64-7CP56I
designator U?
CoolRunner-II, 1.8V, 64 Macrocell CPLD, 56-Ball CSP, Industrial Grade; PackageDocument: ver1.0, Jun-2000; Published: 23-Sep-2002; DatasheetDocument: ver1.5, Jan-2004; PackageReference: CP56; Publisher: Altium Limited
footprint CP56 (56-Ball Chip Scale Ball Grid Array 0.5mm Pitch (CP56))
3D model XC2C64-CP56 (56-Ball Chip Scale Ball Grid Array 0.5mm Pitch (CP56))
signal-integrity model XC2C64_CP56 (CoolRunner-II)
pins: A1 I/O (io), A2 I/O, GTS2 (io), A3 I/O, GTS3 (io), A4 I/O (io), A5 I/O (io), A6 TDO (hiz), A7 I/O (io), A8 I/O (io), A9 I/O (io), A10 I/O (io), B1 I/O, GSR (io), B10 I/O (io), C1 I/O, GTS0 (io), C3 I/O (io), C4 I/O (io), C5 I/O (io), C6 VCCIO (power), C7 GND (power), C8 I/O (io), C10 I/O (io), D1 I/O, GTS1 (io), D3 VAUX (power), D8 I/O (io), D10 I/O (io), E1 I/O (io), E3 I/O (io), E8 I/O (io), E10 I/O (io), F1 I/O (io), F3 I/O (io), F8 GND (power), F10 I/O (io), G1 I/O (io), G3 I/O (io), G8 VCC (power), G10 I/O (io), H1 I/O (io), H3 I/O (io), H4 GND (power), H5 I/O (io), H6 VCCIO (power), H7 I/O (io), H8 I/O (io), H10 I/O (io), J1 I/O, GCK0 (io), J10 TDI (in), K1 I/O, GCK1 (io), K2 I/O, GCK2 (io), K3 I/O (io), K4 I/O (io), K5 I/O (io), K6 I/O (io), K7 I/O (io), K8 I/O (io), K9 TMS (in), K10 TCK (in)

## XC2C64-7PC44C
designator U?
CoolRunner-II, 1.8V, 64 Macrocell CPLD, 44-Pin PLCC, Commercial Grade; PackageDocument: ver1.0, Jun-2000; Published: 23-Sep-2002; DatasheetDocument: ver1.5, Jan-2004; PackageReference: PC44; Publisher: Altium Limited; Code_JEDEC: MS-047; Code_IPC: PLCC-44
footprint PC44 (44-Pin Plastic Leaded Chip Carrier (PC44))
3D model XC2C64-PC44 (44-Pin Plastic Leaded Chip Carrier (PC44))
signal-integrity model XC2C64_PC44 (CoolRunner-II)
pins: 1 I/O (io), 2 I/O (io), 3 I/O (io), 4 I/O (io), 5 I/O, GCK0 (io), 6 I/O, GCK1 (io), 7 I/O, GCK2 (io), 8 I/O (io), 9 I/O (io), 10 GND (power), 11 I/O (io), 12 I/O (io), 13 VCCIO (power), 14 I/O (io), 15 TDI (in), 16 TMS (in), 17 TCK (in), 18 I/O (io), 19 I/O (io), 20 I/O (io), 21 VCC (power), 22 I/O (io), 23 GND (power), 24 I/O (io), 25 I/O (io), 26 I/O (io), 27 I/O (io), 28 I/O (io), 29 I/O (io), 30 TDO (hiz), 31 GND (power), 32 VCCIO (power), 33 I/O (io), 34 I/O (io), 35 I/O (io), 36 I/O, GSR (io), 37 I/O, GTS2 (io), 38 I/O, GTS3 (io), 39 I/O, GTS0 (io), 40 I/O, GTS1 (io), 41 VAUX (power), 42 I/O (io), 43 I/O (io), 44 I/O (io)

## XC2C64-7PC44I
designator U?
CoolRunner-II, 1.8V, 64 Macrocell CPLD, 44-Pin PLCC, Industrial Grade; PackageDocument: ver1.0, Jun-2000; Published: 23-Sep-2002; DatasheetDocument: ver1.5, Jan-2004; PackageReference: PC44; Publisher: Altium Limited; Code_JEDEC: MS-047; Code_IPC: PLCC-44
footprint PC44 (44-Pin Plastic Leaded Chip Carrier (PC44))
3D model XC2C64-PC44 (44-Pin Plastic Leaded Chip Carrier (PC44))
signal-integrity model XC2C64_PC44 (CoolRunner-II)
pins: 1 I/O (io), 2 I/O (io), 3 I/O (io), 4 I/O (io), 5 I/O, GCK0 (io), 6 I/O, GCK1 (io), 7 I/O, GCK2 (io), 8 I/O (io), 9 I/O (io), 10 GND (power), 11 I/O (io), 12 I/O (io), 13 VCCIO (power), 14 I/O (io), 15 TDI (in), 16 TMS (in), 17 TCK (in), 18 I/O (io), 19 I/O (io), 20 I/O (io), 21 VCC (power), 22 I/O (io), 23 GND (power), 24 I/O (io), 25 I/O (io), 26 I/O (io), 27 I/O (io), 28 I/O (io), 29 I/O (io), 30 TDO (hiz), 31 GND (power), 32 VCCIO (power), 33 I/O (io), 34 I/O (io), 35 I/O (io), 36 I/O, GSR (io), 37 I/O, GTS2 (io), 38 I/O, GTS3 (io), 39 I/O, GTS0 (io), 40 I/O, GTS1 (io), 41 VAUX (power), 42 I/O (io), 43 I/O (io), 44 I/O (io)

## XC2C64-7VQ44C
designator U?
CoolRunner-II, 1.8V, 64 Macrocell CPLD, 44-Pin VQFP, Commercial Grade; PackageDocument: ver1.1, Oct-2002; Published: 23-Sep-2002; DatasheetDocument: ver1.5, Jan-2004; PackageReference: VQ44; Publisher: Altium Limited; Code_JEDEC: MS-026-ACB
footprint VQ44 (44-Pin Very Thin Quad Flat Pack (VQ44))
3D model XC2C64-VQ44 (44-Pin Very Thin Quad Flat Pack (VQ44))
signal-integrity model XC2C64_VQ44 (CoolRunner-II)
pins: 1 I/O, GCK2 (io), 2 I/O (io), 3 I/O (io), 4 GND (power), 5 I/O (io), 6 I/O (io), 7 VCCIO (power), 8 I/O (io), 9 TDI (in), 10 TMS (in), 11 TCK (in), 12 I/O (io), 13 I/O (io), 14 I/O (io), 15 VCC (power), 16 I/O (io), 17 GND (power), 18 I/O (io), 19 I/O (io), 20 I/O (io), 21 I/O (io), 22 I/O (io), 23 I/O (io), 24 TDO (hiz), 25 GND (power), 26 VCCIO (power), 27 I/O (io), 28 I/O (io), 29 I/O (io), 30 I/O, GSR (io), 31 I/O, GTS2 (io), 32 I/O, GTS3 (io), 33 I/O, GTS0 (io), 34 I/O, GTS1 (io), 35 VAUX (power), 36 I/O (io), 37 I/O (io), 38 I/O (io), 39 I/O (io), 40 I/O (io), 41 I/O (io), 42 I/O (io), 43 I/O, GCK0 (io), 44 I/O, GCK1 (io)

## XC2C64-7VQ44I
designator U?
CoolRunner-II, 1.8V, 64 Macrocell CPLD, 44-Pin VQFP, Industrial Grade; PackageDocument: ver1.1, Oct-2002; Published: 23-Sep-2002; DatasheetDocument: ver1.5, Jan-2004; PackageReference: VQ44; Publisher: Altium Limited; Code_JEDEC: MS-026-ACB
footprint VQ44 (44-Pin Very Thin Quad Flat Pack (VQ44))
3D model XC2C64-VQ44 (44-Pin Very Thin Quad Flat Pack (VQ44))
signal-integrity model XC2C64_VQ44 (CoolRunner-II)
pins: 1 I/O, GCK2 (io), 2 I/O (io), 3 I/O (io), 4 GND (power), 5 I/O (io), 6 I/O (io), 7 VCCIO (power), 8 I/O (io), 9 TDI (in), 10 TMS (in), 11 TCK (in), 12 I/O (io), 13 I/O (io), 14 I/O (io), 15 VCC (power), 16 I/O (io), 17 GND (power), 18 I/O (io), 19 I/O (io), 20 I/O (io), 21 I/O (io), 22 I/O (io), 23 I/O (io), 24 TDO (hiz), 25 GND (power), 26 VCCIO (power), 27 I/O (io), 28 I/O (io), 29 I/O (io), 30 I/O, GSR (io), 31 I/O, GTS2 (io), 32 I/O, GTS3 (io), 33 I/O, GTS0 (io), 34 I/O, GTS1 (io), 35 VAUX (power), 36 I/O (io), 37 I/O (io), 38 I/O (io), 39 I/O (io), 40 I/O (io), 41 I/O (io), 42 I/O (io), 43 I/O, GCK0 (io), 44 I/O, GCK1 (io)

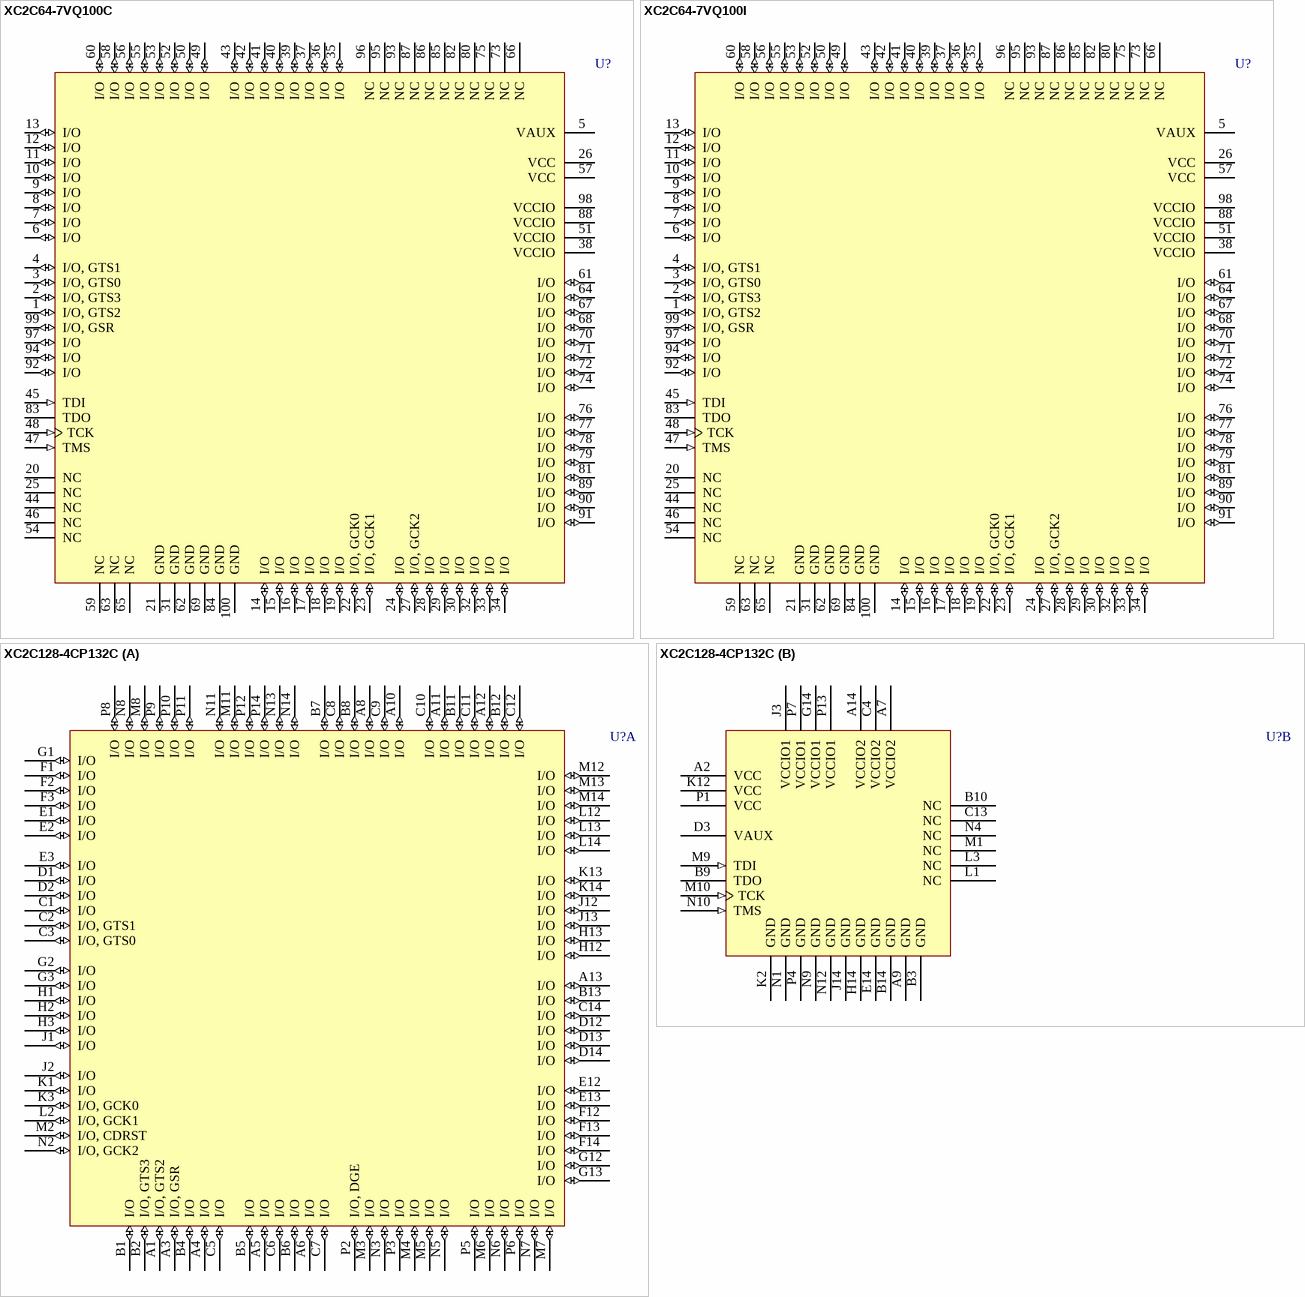
[diagram p3: symbols XC2C64-7VQ100C to XC2C128-4CP132C]

## XC2C64-7VQ100C
designator U?
CoolRunner-II, 1.8V, 64 Macrocell CPLD, 100-Pin VQFP, Commercial Grade; PackageDocument: ver1.1, Oct-2002; Published: 23-Sep-2002; DatasheetDocument: ver1.5, Jan-2004; PackageReference: VQ100; Publisher: Altium Limited; Code_JEDEC: MS-026-AED; Code_IPC: SQFP14X14-100
footprint VQ100 (100-Pin Very Thin Quad Flat Pack (VQ100))
3D model XC2C64-VQ100 (100-Pin Very Thin Quad Flat Pack (VQ100))
signal-integrity model XC2C64_VQ100 (CoolRunner-II)
pins: 1 I/O, GTS2 (io), 2 I/O, GTS3 (io), 3 I/O, GTS0 (io), 4 I/O, GTS1 (io), 5 VAUX (power), 6 I/O (io), 7 I/O (io), 8 I/O (io), 9 I/O (io), 10 I/O (io), 11 I/O (io), 12 I/O (io), 13 I/O (io), 14 I/O (io), 15 I/O (io), 16 I/O (io), 17 I/O (io), 18 I/O (io), 19 I/O (io), 20 NC, 21 GND (power), 22 I/O, GCK0 (io), 23 I/O, GCK1 (io), 24 I/O (io), 25 NC, 26 VCC (power), 27 I/O, GCK2 (io), 28 I/O (io), 29 I/O (io), 30 I/O (io), 31 GND (power), 32 I/O (io), 33 I/O (io), 34 I/O (io), 35 I/O (io), 36 I/O (io), 37 I/O (io), 38 VCCIO (power), 39 I/O (io), 40 I/O (io), 41 I/O (io), 42 I/O (io), 43 I/O (io), 44 NC, 45 TDI (in), 46 NC, 47 TMS (in), 48 TCK (in), 49 I/O (io), 50 I/O (io), 51 VCCIO (power), 52 I/O (io), 53 I/O (io), 54 NC, 55 I/O (io), 56 I/O (io), 57 VCC (power), 58 I/O (io), 59 NC, 60 I/O (io), 61 I/O (io), 62 GND (power), 63 NC, 64 I/O (io), 65 NC, 66 NC, 67 I/O (io), 68 I/O (io), 69 GND (power), 70 I/O (io), 71 I/O (io), 72 I/O (io), 73 NC, 74 I/O (io), 75 NC, 76 I/O (io), 77 I/O (io), 78 I/O (io), 79 I/O (io), 80 NC, 81 I/O (io), 82 NC, 83 TDO (hiz), 84 GND (power), 85 NC, 86 NC, 87 NC, 88 VCCIO (power), 89 I/O (io), 90 I/O (io), 91 I/O (io), 92 I/O (io), 93 NC, 94 I/O (io), 95 NC, 96 NC, 97 I/O (io), 98 VCCIO (power), 99 I/O, GSR (io), 100 GND (power)

## XC2C64-7VQ100I
designator U?
CoolRunner-II, 1.8V, 64 Macrocell CPLD, 100-Pin VQFP, Industrial Grade; PackageDocument: ver1.1, Oct-2002; Published: 23-Sep-2002; DatasheetDocument: ver1.5, Jan-2004; PackageReference: VQ100; Publisher: Altium Limited; Code_JEDEC: MS-026-AED; Code_IPC: SQFP14X14-100
footprint VQ100 (100-Pin Very Thin Quad Flat Pack (VQ100))
3D model XC2C64-VQ100 (100-Pin Very Thin Quad Flat Pack (VQ100))
signal-integrity model XC2C64_VQ100 (CoolRunner-II)
pins: 1 I/O, GTS2 (io), 2 I/O, GTS3 (io), 3 I/O, GTS0 (io), 4 I/O, GTS1 (io), 5 VAUX (power), 6 I/O (io), 7 I/O (io), 8 I/O (io), 9 I/O (io), 10 I/O (io), 11 I/O (io), 12 I/O (io), 13 I/O (io), 14 I/O (io), 15 I/O (io), 16 I/O (io), 17 I/O (io), 18 I/O (io), 19 I/O (io), 20 NC, 21 GND (power), 22 I/O, GCK0 (io), 23 I/O, GCK1 (io), 24 I/O (io), 25 NC, 26 VCC (power), 27 I/O, GCK2 (io), 28 I/O (io), 29 I/O (io), 30 I/O (io), 31 GND (power), 32 I/O (io), 33 I/O (io), 34 I/O (io), 35 I/O (io), 36 I/O (io), 37 I/O (io), 38 VCCIO (power), 39 I/O (io), 40 I/O (io), 41 I/O (io), 42 I/O (io), 43 I/O (io), 44 NC, 45 TDI (in), 46 NC, 47 TMS (in), 48 TCK (in), 49 I/O (io), 50 I/O (io), 51 VCCIO (power), 52 I/O (io), 53 I/O (io), 54 NC, 55 I/O (io), 56 I/O (io), 57 VCC (power), 58 I/O (io), 59 NC, 60 I/O (io), 61 I/O (io), 62 GND (power), 63 NC, 64 I/O (io), 65 NC, 66 NC, 67 I/O (io), 68 I/O (io), 69 GND (power), 70 I/O (io), 71 I/O (io), 72 I/O (io), 73 NC, 74 I/O (io), 75 NC, 76 I/O (io), 77 I/O (io), 78 I/O (io), 79 I/O (io), 80 NC, 81 I/O (io), 82 NC, 83 TDO (hiz), 84 GND (power), 85 NC, 86 NC, 87 NC, 88 VCCIO (power), 89 I/O (io), 90 I/O (io), 91 I/O (io), 92 I/O (io), 93 NC, 94 I/O (io), 95 NC, 96 NC, 97 I/O (io), 98 VCCIO (power), 99 I/O, GSR (io), 100 GND (power)

## XC2C128-4CP132C
designator U?
CoolRunner-II, 1.8V, 128 Macrocell CPLD, 132-Ball CSP, Commercial Grade; PackageDocument: ver1.2, Apr-2002; Published: 23-Sep-2002; DatasheetDocument: ver2.3, Mar-2004; PackageReference: CP132; Publisher: Altium Limited
footprint CP132 (132-Ball Chip Scale Ball Grid Array 0.5mm Pitch (CP132))
3D model XC2C128-CP132 (132-Ball Chip Scale Ball Grid Array 0.5mm Pitch (CP132))
signal-integrity model XC2C128_CP132 (CoolRunner-II)
part A pins: A1 I/O, GTS2 (io), A3 I/O, GSR (io), A4 I/O (io), A5 I/O (io), A6 I/O (io), A8 I/O (io), A10 I/O (io), A11 I/O (io), A12 I/O (io), A13 I/O (io), B1 I/O (io), B2 I/O, GTS3 (io), B4 I/O (io), B5 I/O (io), B6 I/O (io), B7 I/O (io), B8 I/O (io), B11 I/O (io), B12 I/O (io), B13 I/O (io), C1 I/O (io), C2 I/O, GTS1 (io), C3 I/O, GTS0 (io), C5 I/O (io), C6 I/O (io), C7 I/O (io), C8 I/O (io), C9 I/O (io), C10 I/O (io), C11 I/O (io), C12 I/O (io), C14 I/O (io), D1 I/O (io), D2 I/O (io), D12 I/O (io), D13 I/O (io), D14 I/O (io), E1 I/O (io), E2 I/O (io), E3 I/O (io), E12 I/O (io), E13 I/O (io), F1 I/O (io), F2 I/O (io), F3 I/O (io), F12 I/O (io), F13 I/O (io), F14 I/O (io), G1 I/O (io), G2 I/O (io), G3 I/O (io), G12 I/O (io), G13 I/O (io), H1 I/O (io), H2 I/O (io), H3 I/O (io), H12 I/O (io), H13 I/O (io), J1 I/O (io), J2 I/O (io), J12 I/O (io), J13 I/O (io), K1 I/O (io), K3 I/O, GCK0 (io), K13 I/O (io), K14 I/O (io), L2 I/O, GCK1 (io), L12 I/O (io), L13 I/O (io), L14 I/O (io), M2 I/O, CDRST (io), M3 I/O (io), M4 I/O (io), M5 I/O (io), M6 I/O (io), M7 I/O (io), M8 I/O (io), M11 I/O (io), M12 I/O (io), M13 I/O (io), M14 I/O (io), N2 I/O, GCK2 (io), N3 I/O (io), N5 I/O (io), N6 I/O (io), N7 I/O (io), N8 I/O (io), N11 I/O (io), N13 I/O (io), N14 I/O (io), P2 I/O, DGE (io), P3 I/O (io), P5 I/O (io), P6 I/O (io), P8 I/O (io), P9 I/O (io), P10 I/O (io), P11 I/O (io), P12 I/O (io), P14 I/O (io)
part B pins: A2 VCC (power), A7 VCCIO2 (power), A9 GND (power), A14 VCCIO2 (power), B3 GND (power), B9 TDO (hiz), B10 NC, B14 GND (power), C4 VCCIO2 (power), C13 NC, D3 VAUX (power), E14 GND (power), G14 VCCIO1 (power), H14 GND (power), J3 VCCIO1 (power), J14 GND (power), K2 GND (power), K12 VCC (power), L1 NC, L3 NC, M1 NC, M9 TDI (in), M10 TCK (in), N1 GND (power), N4 NC, N9 GND (power), N10 TMS (in), N12 GND (power), P1 VCC (power), P4 GND (power), P7 VCCIO1 (power), P13 VCCIO1 (power)

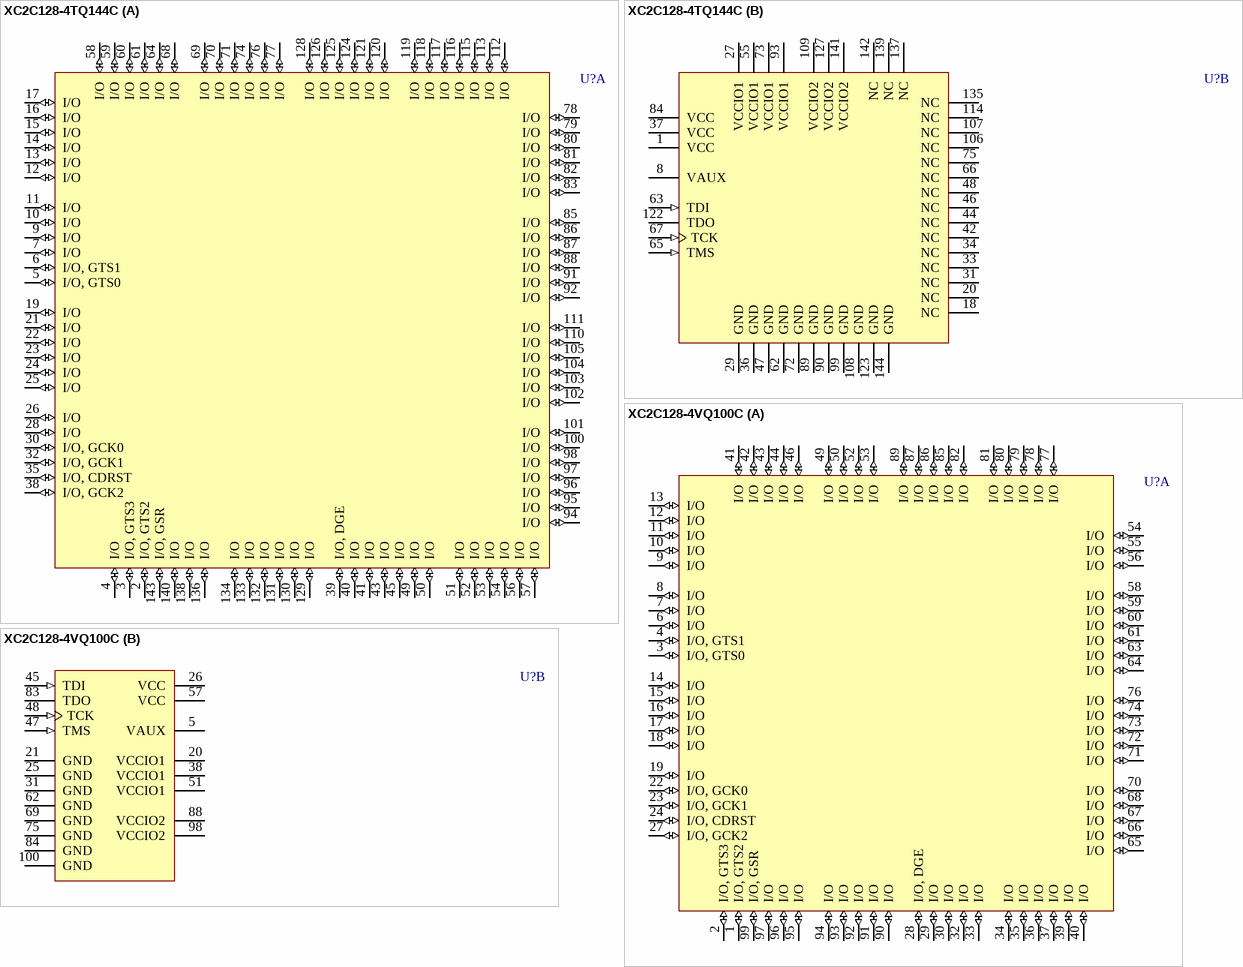
[diagram p4: symbols XC2C128-4TQ144C to XC2C128-4VQ100C]

## XC2C128-4TQ144C
designator U?
CoolRunner-II, 1.8V, 128 Macrocell CPLD, 144-Pin TQFP, Commercial Grade; PackageDocument: ver1.1, Oct-2002; Published: 23-Sep-2002; DatasheetDocument: ver2.3, Mar-2004; PackageReference: TQ144; Publisher: Altium Limited; Code_JEDEC: MS-026-BFB; Code_IPC: SQFP20X20-144
footprint TQ144 (144-Pin Thin Quad Flat Pack (TQ144))
3D model XC2C128-TQ144 (144-Pin Thin Quad Flat Pack (TQ144))
signal-integrity model XC2C128_TQ144 (CoolRunner-II)
part A pins: 2 I/O, GTS2 (io), 3 I/O, GTS3 (io), 4 I/O (io), 5 I/O, GTS0 (io), 6 I/O, GTS1 (io), 7 I/O (io), 9 I/O (io), 10 I/O (io), 11 I/O (io), 12 I/O (io), 13 I/O (io), 14 I/O (io), 15 I/O (io), 16 I/O (io), 17 I/O (io), 19 I/O (io), 21 I/O (io), 22 I/O (io), 23 I/O (io), 24 I/O (io), 25 I/O (io), 26 I/O (io), 28 I/O (io), 30 I/O, GCK0 (io), 32 I/O, GCK1 (io), 35 I/O, CDRST (io), 38 I/O, GCK2 (io), 39 I/O, DGE (io), 40 I/O (io), 41 I/O (io), 43 I/O (io), 45 I/O (io), 49 I/O (io), 50 I/O (io), 51 I/O (io), 52 I/O (io), 53 I/O (io), 54 I/O (io), 56 I/O (io), 57 I/O (io), 58 I/O (io), 59 I/O (io), 60 I/O (io), 61 I/O (io), 64 I/O (io), 68 I/O (io), 69 I/O (io), 70 I/O (io), 71 I/O (io), 74 I/O (io), 76 I/O (io), 77 I/O (io), 78 I/O (io), 79 I/O (io), 80 I/O (io), 81 I/O (io), 82 I/O (io), 83 I/O (io), 85 I/O (io), 86 I/O (io), 87 I/O (io), 88 I/O (io), 91 I/O (io), 92 I/O (io), 94 I/O (io), 95 I/O (io), 96 I/O (io), 97 I/O (io), 98 I/O (io), 100 I/O (io), 101 I/O (io), 102 I/O (io), 103 I/O (io), 104 I/O (io), 105 I/O (io), 110 I/O (io), 111 I/O (io), 112 I/O (io), 113 I/O (io), 115 I/O (io), 116 I/O (io), 117 I/O (io), 118 I/O (io), 119 I/O (io), 120 I/O (io), 121 I/O (io), 124 I/O (io), 125 I/O (io), 126 I/O (io), 128 I/O (io), 129 I/O (io), 130 I/O (io), 131 I/O (io), 132 I/O (io), 133 I/O (io), 134 I/O (io), 136 I/O (io), 138 I/O (io), 140 I/O (io), 143 I/O, GSR (io)
part B pins: 1 VCC (power), 8 VAUX (power), 18 NC, 20 NC, 27 VCCIO1 (power), 29 GND (power), 31 NC, 33 NC, 34 NC, 36 GND (power), 37 VCC (power), 42 NC, 44 NC, 46 NC, 47 GND (power), 48 NC, 55 VCCIO1 (power), 62 GND (power), 63 TDI (in), 65 TMS (in), 66 NC, 67 TCK (in), 72 GND (power), 73 VCCIO1 (power), 75 NC, 84 VCC (power), 89 GND (power), 90 GND (power), 93 VCCIO1 (power), 99 GND (power), 106 NC, 107 NC, 108 GND (power), 109 VCCIO2 (power), 114 NC, 122 TDO (hiz), 123 GND (power), 127 VCCIO2 (power), 135 NC, 137 NC, 139 NC, 141 VCCIO2 (power), 142 NC, 144 GND (power)

## XC2C128-4VQ100C
designator U?
CoolRunner-II, 1.8V, 128 Macrocell CPLD, 100-Pin VQFP, Commercial Grade; PackageDocument: ver1.1, Oct-2002; Published: 23-Sep-2002; DatasheetDocument: ver2.3, Mar-2004; PackageReference: VQ100; Publisher: Altium Limited; Code_JEDEC: MS-026-AED; Code_IPC: SQFP14X14-100
footprint VQ100 (100-Pin Very Thin Quad Flat Pack (VQ100))
3D model XC2C128-VQ100 (100-Pin Very Thin Quad Flat Pack (VQ100))
signal-integrity model XC2C128_VQ100 (CoolRunner-II)
part A pins: 1 I/O, GTS2 (io), 2 I/O, GTS3 (io), 3 I/O, GTS0 (io), 4 I/O, GTS1 (io), 6 I/O (io), 7 I/O (io), 8 I/O (io), 9 I/O (io), 10 I/O (io), 11 I/O (io), 12 I/O (io), 13 I/O (io), 14 I/O (io), 15 I/O (io), 16 I/O (io), 17 I/O (io), 18 I/O (io), 19 I/O (io), 22 I/O, GCK0 (io), 23 I/O, GCK1 (io), 24 I/O, CDRST (io), 27 I/O, GCK2 (io), 28 I/O, DGE (io), 29 I/O (io), 30 I/O (io), 32 I/O (io), 33 I/O (io), 34 I/O (io), 35 I/O (io), 36 I/O (io), 37 I/O (io), 39 I/O (io), 40 I/O (io), 41 I/O (io), 42 I/O (io), 43 I/O (io), 44 I/O (io), 46 I/O (io), 49 I/O (io), 50 I/O (io), 52 I/O (io), 53 I/O (io), 54 I/O (io), 55 I/O (io), 56 I/O (io), 58 I/O (io), 59 I/O (io), 60 I/O (io), 61 I/O (io), 63 I/O (io), 64 I/O (io), 65 I/O (io), 66 I/O (io), 67 I/O (io), 68 I/O (io), 70 I/O (io), 71 I/O (io), 72 I/O (io), 73 I/O (io), 74 I/O (io), 76 I/O (io), 77 I/O (io), 78 I/O (io), 79 I/O (io), 80 I/O (io), 81 I/O (io), 82 I/O (io), 85 I/O (io), 86 I/O (io), 87 I/O (io), 89 I/O (io), 90 I/O (io), 91 I/O (io), 92 I/O (io), 93 I/O (io), 94 I/O (io), 95 I/O (io), 96 I/O (io), 97 I/O (io), 99 I/O, GSR (io)
part B pins: 5 VAUX (power), 20 VCCIO1 (power), 21 GND (power), 25 GND (power), 26 VCC (power), 31 GND (power), 38 VCCIO1 (power), 45 TDI (in), 47 TMS (in), 48 TCK (in), 51 VCCIO1 (power), 57 VCC (power), 62 GND (power), 69 GND (power), 75 GND (power), 83 TDO (hiz), 84 GND (power), 88 VCCIO2 (power), 98 VCCIO2 (power), 100 GND (power)

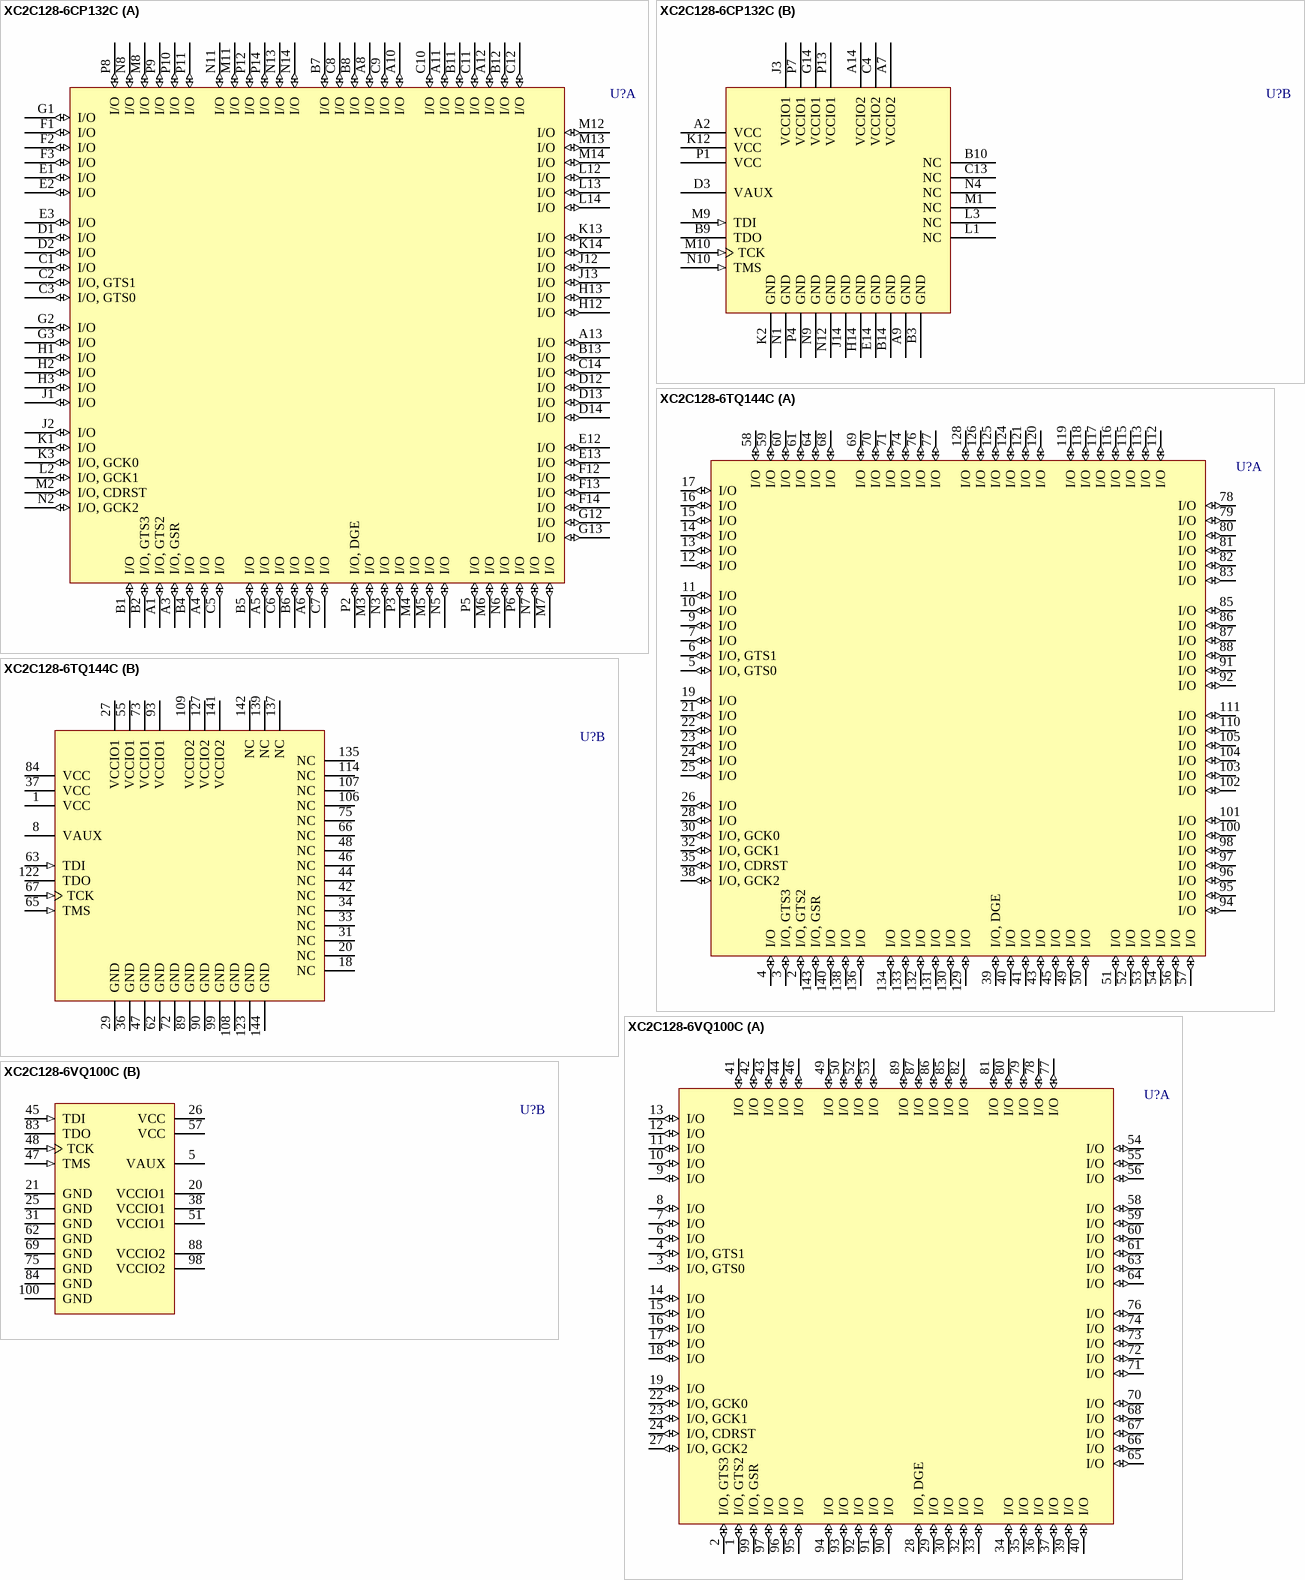
[diagram p5: symbols XC2C128-6CP132C to XC2C128-6VQ100C]

## XC2C128-6CP132C
designator U?
CoolRunner-II, 1.8V, 128 Macrocell CPLD, 132-Ball CSP, Commercial Grade; PackageDocument: ver1.2, Apr-2002; Published: 23-Sep-2002; DatasheetDocument: ver2.3, Mar-2004; PackageReference: CP132; Publisher: Altium Limited
footprint CP132 (132-Ball Chip Scale Ball Grid Array 0.5mm Pitch (CP132))
3D model XC2C128-CP132 (132-Ball Chip Scale Ball Grid Array 0.5mm Pitch (CP132))
signal-integrity model XC2C128_CP132 (CoolRunner-II)
part A pins: A1 I/O, GTS2 (io), A3 I/O, GSR (io), A4 I/O (io), A5 I/O (io), A6 I/O (io), A8 I/O (io), A10 I/O (io), A11 I/O (io), A12 I/O (io), A13 I/O (io), B1 I/O (io), B2 I/O, GTS3 (io), B4 I/O (io), B5 I/O (io), B6 I/O (io), B7 I/O (io), B8 I/O (io), B11 I/O (io), B12 I/O (io), B13 I/O (io), C1 I/O (io), C2 I/O, GTS1 (io), C3 I/O, GTS0 (io), C5 I/O (io), C6 I/O (io), C7 I/O (io), C8 I/O (io), C9 I/O (io), C10 I/O (io), C11 I/O (io), C12 I/O (io), C14 I/O (io), D1 I/O (io), D2 I/O (io), D12 I/O (io), D13 I/O (io), D14 I/O (io), E1 I/O (io), E2 I/O (io), E3 I/O (io), E12 I/O (io), E13 I/O (io), F1 I/O (io), F2 I/O (io), F3 I/O (io), F12 I/O (io), F13 I/O (io), F14 I/O (io), G1 I/O (io), G2 I/O (io), G3 I/O (io), G12 I/O (io), G13 I/O (io), H1 I/O (io), H2 I/O (io), H3 I/O (io), H12 I/O (io), H13 I/O (io), J1 I/O (io), J2 I/O (io), J12 I/O (io), J13 I/O (io), K1 I/O (io), K3 I/O, GCK0 (io), K13 I/O (io), K14 I/O (io), L2 I/O, GCK1 (io), L12 I/O (io), L13 I/O (io), L14 I/O (io), M2 I/O, CDRST (io), M3 I/O (io), M4 I/O (io), M5 I/O (io), M6 I/O (io), M7 I/O (io), M8 I/O (io), M11 I/O (io), M12 I/O (io), M13 I/O (io), M14 I/O (io), N2 I/O, GCK2 (io), N3 I/O (io), N5 I/O (io), N6 I/O (io), N7 I/O (io), N8 I/O (io), N11 I/O (io), N13 I/O (io), N14 I/O (io), P2 I/O, DGE (io), P3 I/O (io), P5 I/O (io), P6 I/O (io), P8 I/O (io), P9 I/O (io), P10 I/O (io), P11 I/O (io), P12 I/O (io), P14 I/O (io)
part B pins: A2 VCC (power), A7 VCCIO2 (power), A9 GND (power), A14 VCCIO2 (power), B3 GND (power), B9 TDO (hiz), B10 NC, B14 GND (power), C4 VCCIO2 (power), C13 NC, D3 VAUX (power), E14 GND (power), G14 VCCIO1 (power), H14 GND (power), J3 VCCIO1 (power), J14 GND (power), K2 GND (power), K12 VCC (power), L1 NC, L3 NC, M1 NC, M9 TDI (in), M10 TCK (in), N1 GND (power), N4 NC, N9 GND (power), N10 TMS (in), N12 GND (power), P1 VCC (power), P4 GND (power), P7 VCCIO1 (power), P13 VCCIO1 (power)

## XC2C128-6TQ144C
designator U?
CoolRunner-II, 1.8V, 128 Macrocell CPLD, 144-Pin TQFP, Commercial Grade; PackageDocument: ver1.1, Oct-2002; Published: 23-Sep-2002; DatasheetDocument: ver2.3, Mar-2004; PackageReference: TQ144; Publisher: Altium Limited; Code_JEDEC: MS-026-BFB; Code_IPC: SQFP20X20-144
footprint TQ144 (144-Pin Thin Quad Flat Pack (TQ144))
3D model XC2C128-TQ144 (144-Pin Thin Quad Flat Pack (TQ144))
signal-integrity model XC2C128_TQ144 (CoolRunner-II)
part A pins: 2 I/O, GTS2 (io), 3 I/O, GTS3 (io), 4 I/O (io), 5 I/O, GTS0 (io), 6 I/O, GTS1 (io), 7 I/O (io), 9 I/O (io), 10 I/O (io), 11 I/O (io), 12 I/O (io), 13 I/O (io), 14 I/O (io), 15 I/O (io), 16 I/O (io), 17 I/O (io), 19 I/O (io), 21 I/O (io), 22 I/O (io), 23 I/O (io), 24 I/O (io), 25 I/O (io), 26 I/O (io), 28 I/O (io), 30 I/O, GCK0 (io), 32 I/O, GCK1 (io), 35 I/O, CDRST (io), 38 I/O, GCK2 (io), 39 I/O, DGE (io), 40 I/O (io), 41 I/O (io), 43 I/O (io), 45 I/O (io), 49 I/O (io), 50 I/O (io), 51 I/O (io), 52 I/O (io), 53 I/O (io), 54 I/O (io), 56 I/O (io), 57 I/O (io), 58 I/O (io), 59 I/O (io), 60 I/O (io), 61 I/O (io), 64 I/O (io), 68 I/O (io), 69 I/O (io), 70 I/O (io), 71 I/O (io), 74 I/O (io), 76 I/O (io), 77 I/O (io), 78 I/O (io), 79 I/O (io), 80 I/O (io), 81 I/O (io), 82 I/O (io), 83 I/O (io), 85 I/O (io), 86 I/O (io), 87 I/O (io), 88 I/O (io), 91 I/O (io), 92 I/O (io), 94 I/O (io), 95 I/O (io), 96 I/O (io), 97 I/O (io), 98 I/O (io), 100 I/O (io), 101 I/O (io), 102 I/O (io), 103 I/O (io), 104 I/O (io), 105 I/O (io), 110 I/O (io), 111 I/O (io), 112 I/O (io), 113 I/O (io), 115 I/O (io), 116 I/O (io), 117 I/O (io), 118 I/O (io), 119 I/O (io), 120 I/O (io), 121 I/O (io), 124 I/O (io), 125 I/O (io), 126 I/O (io), 128 I/O (io), 129 I/O (io), 130 I/O (io), 131 I/O (io), 132 I/O (io), 133 I/O (io), 134 I/O (io), 136 I/O (io), 138 I/O (io), 140 I/O (io), 143 I/O, GSR (io)
part B pins: 1 VCC (power), 8 VAUX (power), 18 NC, 20 NC, 27 VCCIO1 (power), 29 GND (power), 31 NC, 33 NC, 34 NC, 36 GND (power), 37 VCC (power), 42 NC, 44 NC, 46 NC, 47 GND (power), 48 NC, 55 VCCIO1 (power), 62 GND (power), 63 TDI (in), 65 TMS (in), 66 NC, 67 TCK (in), 72 GND (power), 73 VCCIO1 (power), 75 NC, 84 VCC (power), 89 GND (power), 90 GND (power), 93 VCCIO1 (power), 99 GND (power), 106 NC, 107 NC, 108 GND (power), 109 VCCIO2 (power), 114 NC, 122 TDO (hiz), 123 GND (power), 127 VCCIO2 (power), 135 NC, 137 NC, 139 NC, 141 VCCIO2 (power), 142 NC, 144 GND (power)

## XC2C128-6VQ100C
designator U?
CoolRunner-II, 1.8V, 128 Macrocell CPLD, 100-Pin VQFP, Commercial Grade; PackageDocument: ver1.1, Oct-2002; Published: 23-Sep-2002; DatasheetDocument: ver2.3, Mar-2004; PackageReference: VQ100; Publisher: Altium Limited; Code_JEDEC: MS-026-AED; Code_IPC: SQFP14X14-100
footprint VQ100 (100-Pin Very Thin Quad Flat Pack (VQ100))
3D model XC2C128-VQ100 (100-Pin Very Thin Quad Flat Pack (VQ100))
signal-integrity model XC2C128_VQ100 (CoolRunner-II)
part A pins: 1 I/O, GTS2 (io), 2 I/O, GTS3 (io), 3 I/O, GTS0 (io), 4 I/O, GTS1 (io), 6 I/O (io), 7 I/O (io), 8 I/O (io), 9 I/O (io), 10 I/O (io), 11 I/O (io), 12 I/O (io), 13 I/O (io), 14 I/O (io), 15 I/O (io), 16 I/O (io), 17 I/O (io), 18 I/O (io), 19 I/O (io), 22 I/O, GCK0 (io), 23 I/O, GCK1 (io), 24 I/O, CDRST (io), 27 I/O, GCK2 (io), 28 I/O, DGE (io), 29 I/O (io), 30 I/O (io), 32 I/O (io), 33 I/O (io), 34 I/O (io), 35 I/O (io), 36 I/O (io), 37 I/O (io), 39 I/O (io), 40 I/O (io), 41 I/O (io), 42 I/O (io), 43 I/O (io), 44 I/O (io), 46 I/O (io), 49 I/O (io), 50 I/O (io), 52 I/O (io), 53 I/O (io), 54 I/O (io), 55 I/O (io), 56 I/O (io), 58 I/O (io), 59 I/O (io), 60 I/O (io), 61 I/O (io), 63 I/O (io), 64 I/O (io), 65 I/O (io), 66 I/O (io), 67 I/O (io), 68 I/O (io), 70 I/O (io), 71 I/O (io), 72 I/O (io), 73 I/O (io), 74 I/O (io), 76 I/O (io), 77 I/O (io), 78 I/O (io), 79 I/O (io), 80 I/O (io), 81 I/O (io), 82 I/O (io), 85 I/O (io), 86 I/O (io), 87 I/O (io), 89 I/O (io), 90 I/O (io), 91 I/O (io), 92 I/O (io), 93 I/O (io), 94 I/O (io), 95 I/O (io), 96 I/O (io), 97 I/O (io), 99 I/O, GSR (io)
part B pins: 5 VAUX (power), 20 VCCIO1 (power), 21 GND (power), 25 GND (power), 26 VCC (power), 31 GND (power), 38 VCCIO1 (power), 45 TDI (in), 47 TMS (in), 48 TCK (in), 51 VCCIO1 (power), 57 VCC (power), 62 GND (power), 69 GND (power), 75 GND (power), 83 TDO (hiz), 84 GND (power), 88 VCCIO2 (power), 98 VCCIO2 (power), 100 GND (power)

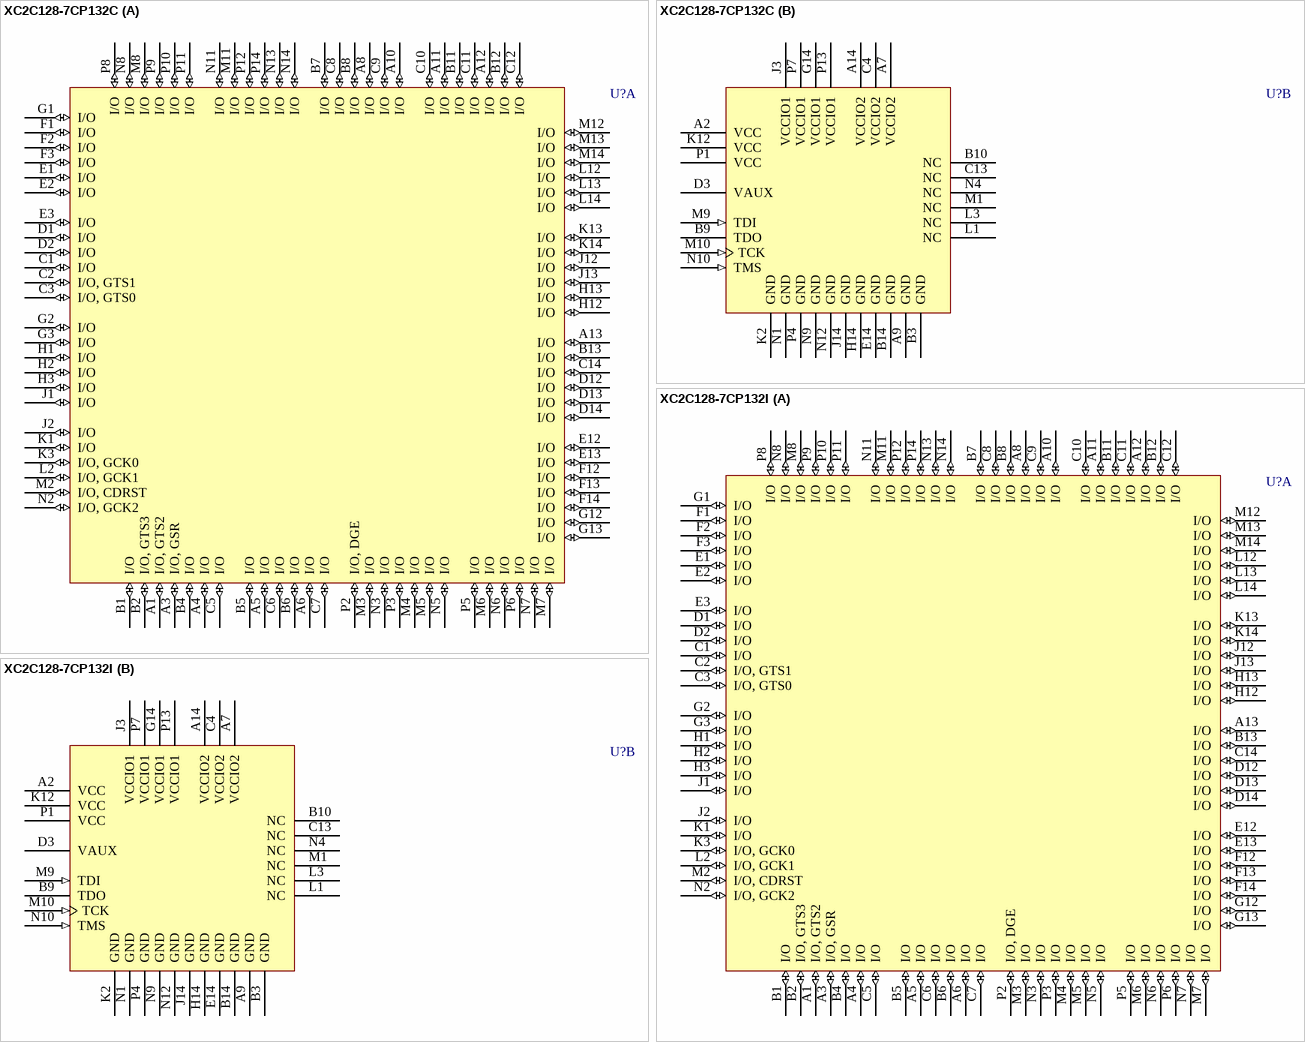
[diagram p6: symbols XC2C128-7CP132C to XC2C128-7CP132I]